# Altium schematic symbol library KipoAlt.SchLib: 644 symbols (part 1 of 4)
Pins are listed as number, name and electrical type; pins without a type are passive.

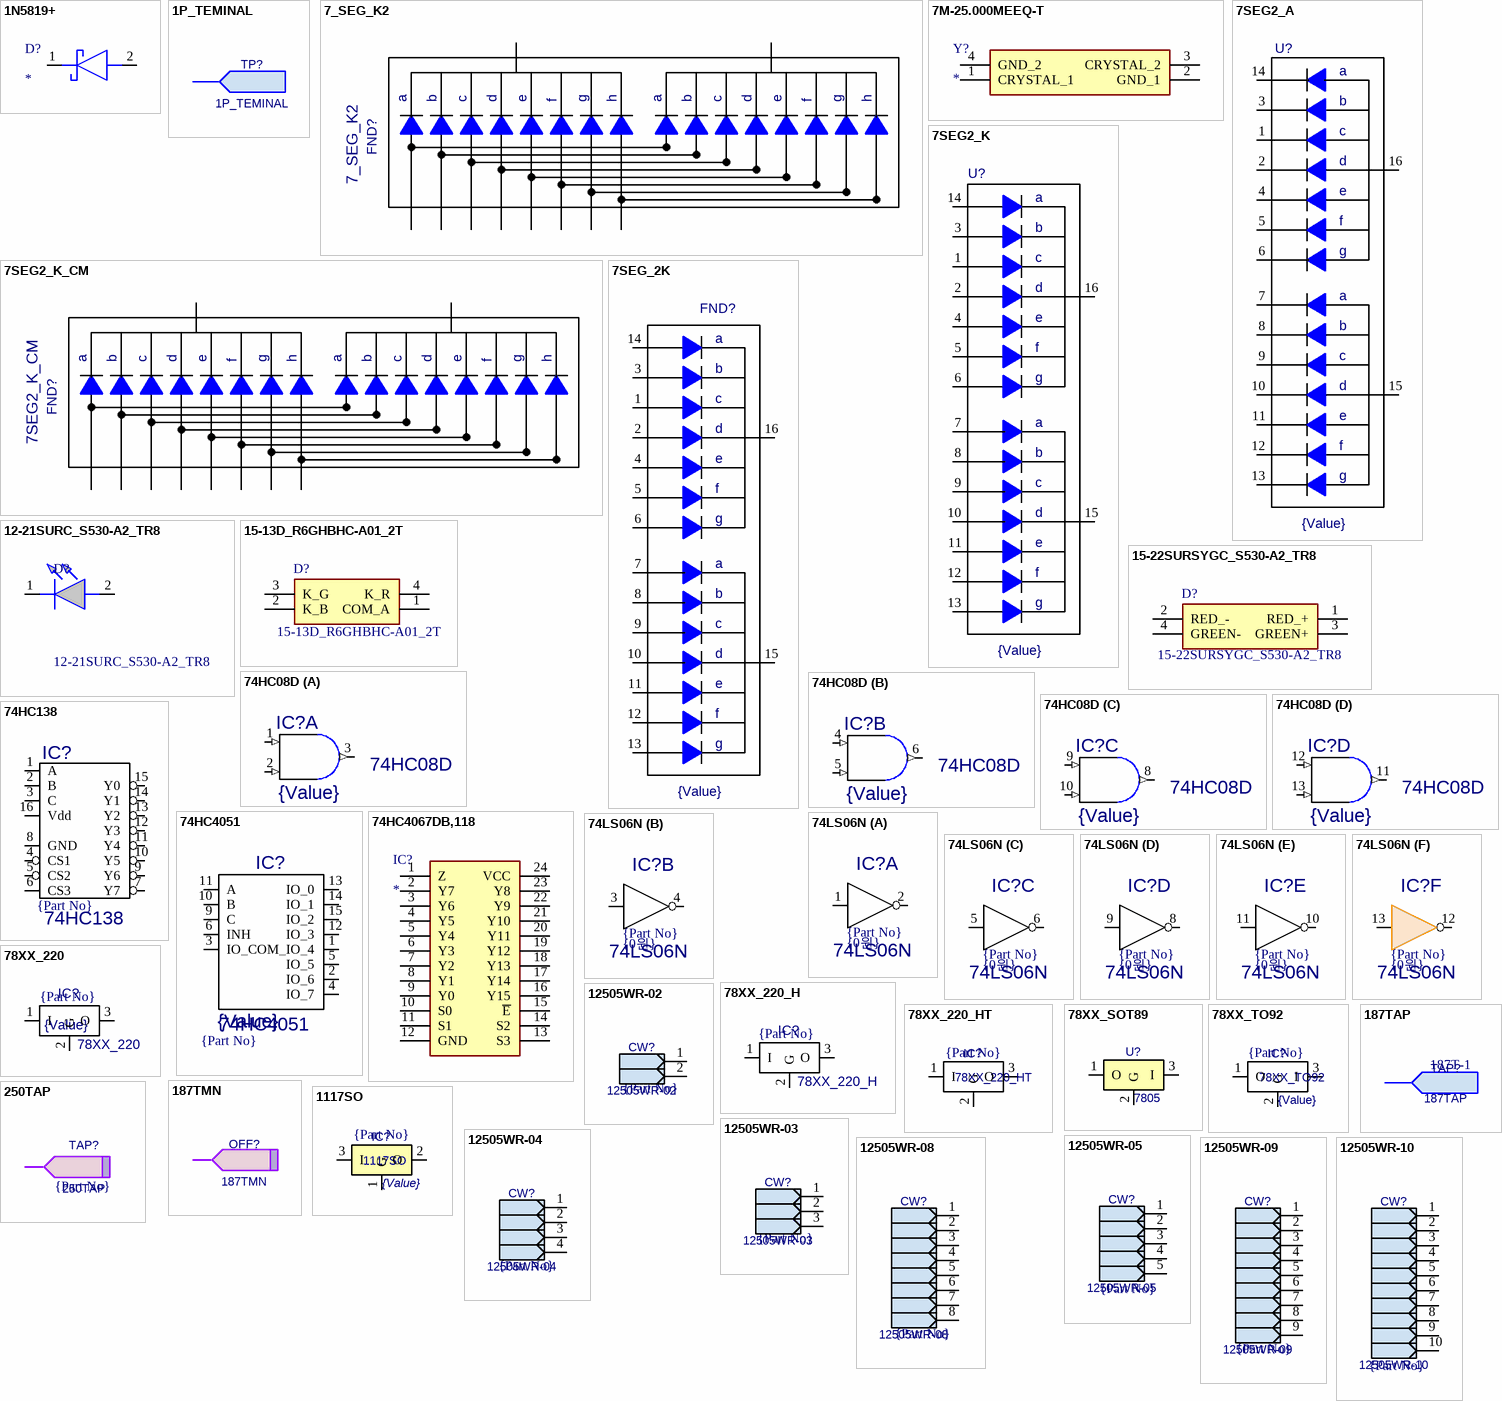
[diagram p0: symbols 1N5819+ to 12505WR-10]

## 1N5819+
designator D?
Schottky Diode; Manufacturer_Name: Multicomp Pro; Manufacturer_Part_Number: 1N5819+
footprint DIOAD1410W86L470D235
pins: 1 K, 2 A

## 1P_TEMINAL
designator TP?
Value: *
footprint TMN_25X40
pins: 1

## 7_SEG_K2
designator FND?
Value: {Value}
footprint 7SEG2_K_CM
pins: 1, 2, 3, 4, 5, 6, 7, 8, 9, 10
text: a; b; c; d; e; f; g; h

## 7M-25.000MEEQ-T
designator Y?
Crystal or Oscillator; Manufacturer_Name: TXC CORPORATION; Manufacturer_Part_Number: 7M-25.000MEEQ-T; Datasheet Link: https://www.txccrystal.com/images/pdf/7m-accuracy.pdf; Height: 0.8mm; Mouser Part Number: 717-7M-25.000MEEQ-T; Mouser Price/Stock: https://www.mouser.co.uk/ProductDetail/TXC-Corporation/7M-25000MEEQ-T?qs=65dIHZNch5sP8qfwL3nyOQ%3D%3D; Arrow Part Number: 7M-25.000MEEQ-T; Arrow Price/Stock: https://www.arrow.com/en/products/7m-25.000meeq-t/txc-corporation?region=nac
footprint 7M25000MEEQT
pins: 1 CRYSTAL_1, 2 GND_1, 3 CRYSTAL_2, 4 GND_2

## 7SEG2_A
designator U?  value {Value}  (hidden comment: *)
pins: 1, 2, 3, 4, 5, 6, 7, 8, 9, 10, 11, 12, 13, 14, 15, 16
text: a; b; c; d; e; f; g

## 7SEG2_K
designator U?  value {Value}  (hidden comment: *)
footprint 7SEG2_K
pins: 1, 2, 3, 4, 5, 6, 7, 8, 9, 10, 11, 12, 13, 14, 15, 16
text: a; b; c; d; e; f; g

## 7SEG2_K_CM
designator FND?
Value: *
footprint 7SEG2_K_CM
pins: 1, 2, 3, 4, 5, 6, 7, 8, 9, 10
text: a; b; c; d; e; f; g; h

## 7SEG_2K
designator FND?  value {Value}  (hidden comment: *)
footprint 7SEG_2K
pins: 1, 2, 3, 4, 5, 6, 7, 8, 9, 10, 11, 12, 13, 14, 15, 16
text: a; b; c; d; e; f; g

## 12-21SURC_S530-A2_TR8
designator D?
ED Uni-Color Hyper Red 632nm Automotive 2-Pin Chip LED T/R; Manufacturer_Name: Everlight; Manufacturer_Part_Number: 12-21SURC/S530-A2/TR8; Geometry.Height: 1.1mm; Mouser Part Number: *; Mouser Price/Stock: *; Arrow Part Number: 12-21SURC/S530-A2/TR8; Arrow Price/Stock: https://www.arrow.com/en/products/12-21surcs530-a2tr8/everlight-electronics?region=europe; Datasheet Link: https://www.mouser.com/datasheet/2/143/1221surcs530xxtr8-1165872.pdf
footprint 1221SURCS530A2TR8
pins: 1 K, 2 A

## 15-13D_R6GHBHC-A01_2T
designator D?
LED Tri-Color Blue/Green/Red 468nm/518nm/632nm 4-Pin Chip LED T/R; Manufacturer_Name: Everlight; Manufacturer_Part_Number: 15-13D/R6GHBHC-A01/2T; Geometry.Height: 1.1mm; Mouser Part Number: 638-1513DR6GHBHCA01; Mouser Price/Stock: *; Arrow Part Number: 15-13D/R6GHBHC-A01/2T; Arrow Price/Stock: https://www.arrow.com/en/products/15-13dr6ghbhc-a012t/everlight-electronics; Datasheet Link: https://everlighteurope.com/index.php?controller=attachment&id_attachment=5678
footprint 1513DR6GHBHCA012T
pins: 1 COM_A, 2 K_B, 3 K_G, 4 K_R

## 15-22SURSYGC_S530-A2_TR8
designator D?
LED Bi-Color Red/Yellow Green 632nm/575nm 4-Pin Chip LED T/R; Manufacturer_Name: Everlight; Manufacturer_Part_Number: 15-22SURSYGC/S530-A2/TR8; Geometry.Height: 1.1mm; Mouser Part Number: 638-1522SURSYGCA2TR8; Mouser Price/Stock: https://www.mouser.co.uk/ProductDetail/Everlight/15-22SURSYGC-S530-A2-TR8?qs=8cKuZ6Ok2lZ0%252BNOb%252B%2F6r4A%3D%3D; Arrow Part Number: *; Arrow Price/Stock: *; Datasheet Link: https://lcsc.com/product-detail/Light-Emitting-Diodes-LED_Everlight-Elec-15-22SURSYGC-S530-A2-TR8_C131251.html
footprint 1522SURSYGCS530A2TR8
pins: 1 RED_+, 2 RED_-, 3 GREEN+, 4 GREEN-

## 74HC08D
designator IC?  value {Value}
Quadruple 2-Input Positive-AND Gate; Part No: {Part No}; OriginalName: SN74AC08D; ComponentField1: Power pins are hidden; ComponentField2: Published 8-Jun-2000
footprint SO14
pins on every part: 7 GND (power) hidden, 14 VCC (power) hidden
part A pins: 1 A (in), 2 B (in), 3 Y (out)
part B pins: 4 A (in), 5 B (in), 6 Y (out)
part C pins: 8 Y (out), 9 A (in), 10 B (in)
part D pins: 11 Y (out), 12 A (in), 13 B (in)

## 74HC138
designator IC?  Part No: {Part No}
Value: *
footprint DIP16
pins: 1 A, 2 B, 3 C, 4 CS1, 5 CS2, 6 CS3, 7 Y7, 8 GND, 9 Y6, 10 Y5, 11 Y4, 12 Y3, 13 Y2, 14 Y1, 15 Y0, 16 Vdd

## 74HC4051
designator IC?  value {Value}  Part No: {Part No}
Analog Multiplexer/Demultiplexer; OriginalName: HCC4051BF; ComponentField6: Power pins are hidden.; ComponentField7: Published 8-Jun-2000
footprint DIP16
pins: 1 IO_4, 2 IO_6, 3 IO_COM_, 4 IO_7, 5 IO_5, 6 INH, 7 gnd (power) hidden, 8 gnd (power) hidden, 9 C, 10 B, 11 A, 12 IO_3, 13 IO_0, 14 IO_1, 15 IO_2, 16 Vdd (power) hidden

## 74HC4067DB,118
designator IC?
Integrated Circuit; Manufacturer_Name: Nexperia; Manufacturer_Part_Number: 74HC4067DB,118; Datasheet Link: https://assets.nexperia.com/documents/data-sheet/74HC_HCT4067.pdf; Height: 2mm; Mouser Part Number: 771-HC4067DB118; Mouser Price/Stock: https://www.mouser.co.uk/ProductDetail/Nexperia/74HC4067DB118?qs=P62ublwmbi8lmEXDWqCs3g%3D%3D; Arrow Part Number: 74HC4067DB,118; Arrow Price/Stock: https://www.arrow.com/en/products/74hc4067db118/nexperia?region=nac
footprint SOP65P775X200-24N
pins: 1 Z, 2 Y7, 3 Y6, 4 Y5, 5 Y4, 6 Y3, 7 Y2, 8 Y1, 9 Y0, 10 S0, 11 S1, 12 GND, 13 S3, 14 S2, 15 ~{E}, 16 Y15, 17 Y14, 18 Y13, 19 Y12, 20 Y11, 21 Y10, 22 Y9, 23 Y8, 24 VCC

## 74LS06N
designator IC?  Price: {0원}  Part No: {Part No}
Hex Inverter Buffer / Driver with Open-Collector High-Voltage Outputs; OriginalName: SN74LS06N; ComponentField1: Power pins are hidden; ComponentField2: Published 8-Jun-2000; Value: {Value}
footprint DIP-14/D19.7
pins on every part: 7 GND (power) hidden, 14 VCC (power) hidden
part A pins: 1 A, 2 Y
part B pins: 3 A, 4 Y
part C pins: 5 A, 6 Y
part D pins: 8 Y, 9 A
part E pins: 10 Y, 11 A
part F pins: 12 Y, 13 A

## 78XX_220
designator IC?  value {Value}  Part No: {Part No}
Price: {Price}
footprint TO-220AB
pins: 1 I, 2 G, 3 O

## 78XX_220_H
designator IC?  Part No: {Part No}
Value: {Value}; {Price}: Price
footprint TO-220H
pins: 1 I, 2 G, 3 O

## 78XX_220_HT
designator IC?  Part No: {Part No}
Value: {Value}; Price: {Price}
footprint TO-220-HT
pins: 1 I, 2 G, 3 O

## 78XX_SOT89
designator U?  value 7805  (hidden comment: 78XX_SOT89)
Part No.: LM78L05 KX; Price: 63
footprint SOT-89
pins: 1 O, 2 G, 3 I, 4 hidden

## 78XX_TO92
designator IC?  value {Value}  Part No.: {Part No}
Price: {Price}
footprint TO92
pins: 1 O, 2 G, 3 I

## 187TAP
designator TAP?  Part No.: 187T-1
Value: *; Price: 20
footprint 187TAP
pins: 1 hidden, 1

## 187TMN
designator OFF?
Value: *; Price: {Price}
pins: 1

## 250TAP
designator TAP?  Part No.: {Part No}
Value: *; Price: {Price}
footprint 250TAP
pins: 1, 2 hidden

## 1117SO
designator IC?  value {Value}  Part No.: {Part No}
Price: {Price}
footprint SOT-223
pins: 1 G, 2 O, 3 I, 4 hidden

## 12505WR-02
designator CW?  Part No.: {Part No}
Price: {Price}
footprint 12505WR-02
pins: 1, 2

## 12505WR-03
designator CW?  Part No.: {Part No}
Price: {Price}
footprint 12505WR-03
pins: 1, 2, 3

## 12505WR-04
designator CW?  Part No.: {Part No}
Price: {Price}
footprint 12505WR-04
pins: 1, 2, 3, 4

## 12505WR-05
designator CW?  Part No.: {Part No}
Price: {Price}
footprint 12505WR-05
pins: 1, 2, 3, 4, 5

## 12505WR-08
designator CW?  Part No.: {Part No}
Price: {Price}
footprint 12505WR-08
pins: 1, 2, 3, 4, 5, 6, 7, 8

## 12505WR-09
designator CW?  Part No.: {Part No}
Price: {Price}
footprint 12505WR-09
pins: 1, 2, 3, 4, 5, 6, 7, 8, 9

## 12505WR-10
designator CW?  Part No.: {Part No}
Price: {Price}
footprint 12505WR-10
pins: 1, 2, 3, 4, 5, 6, 7, 8, 9, 10

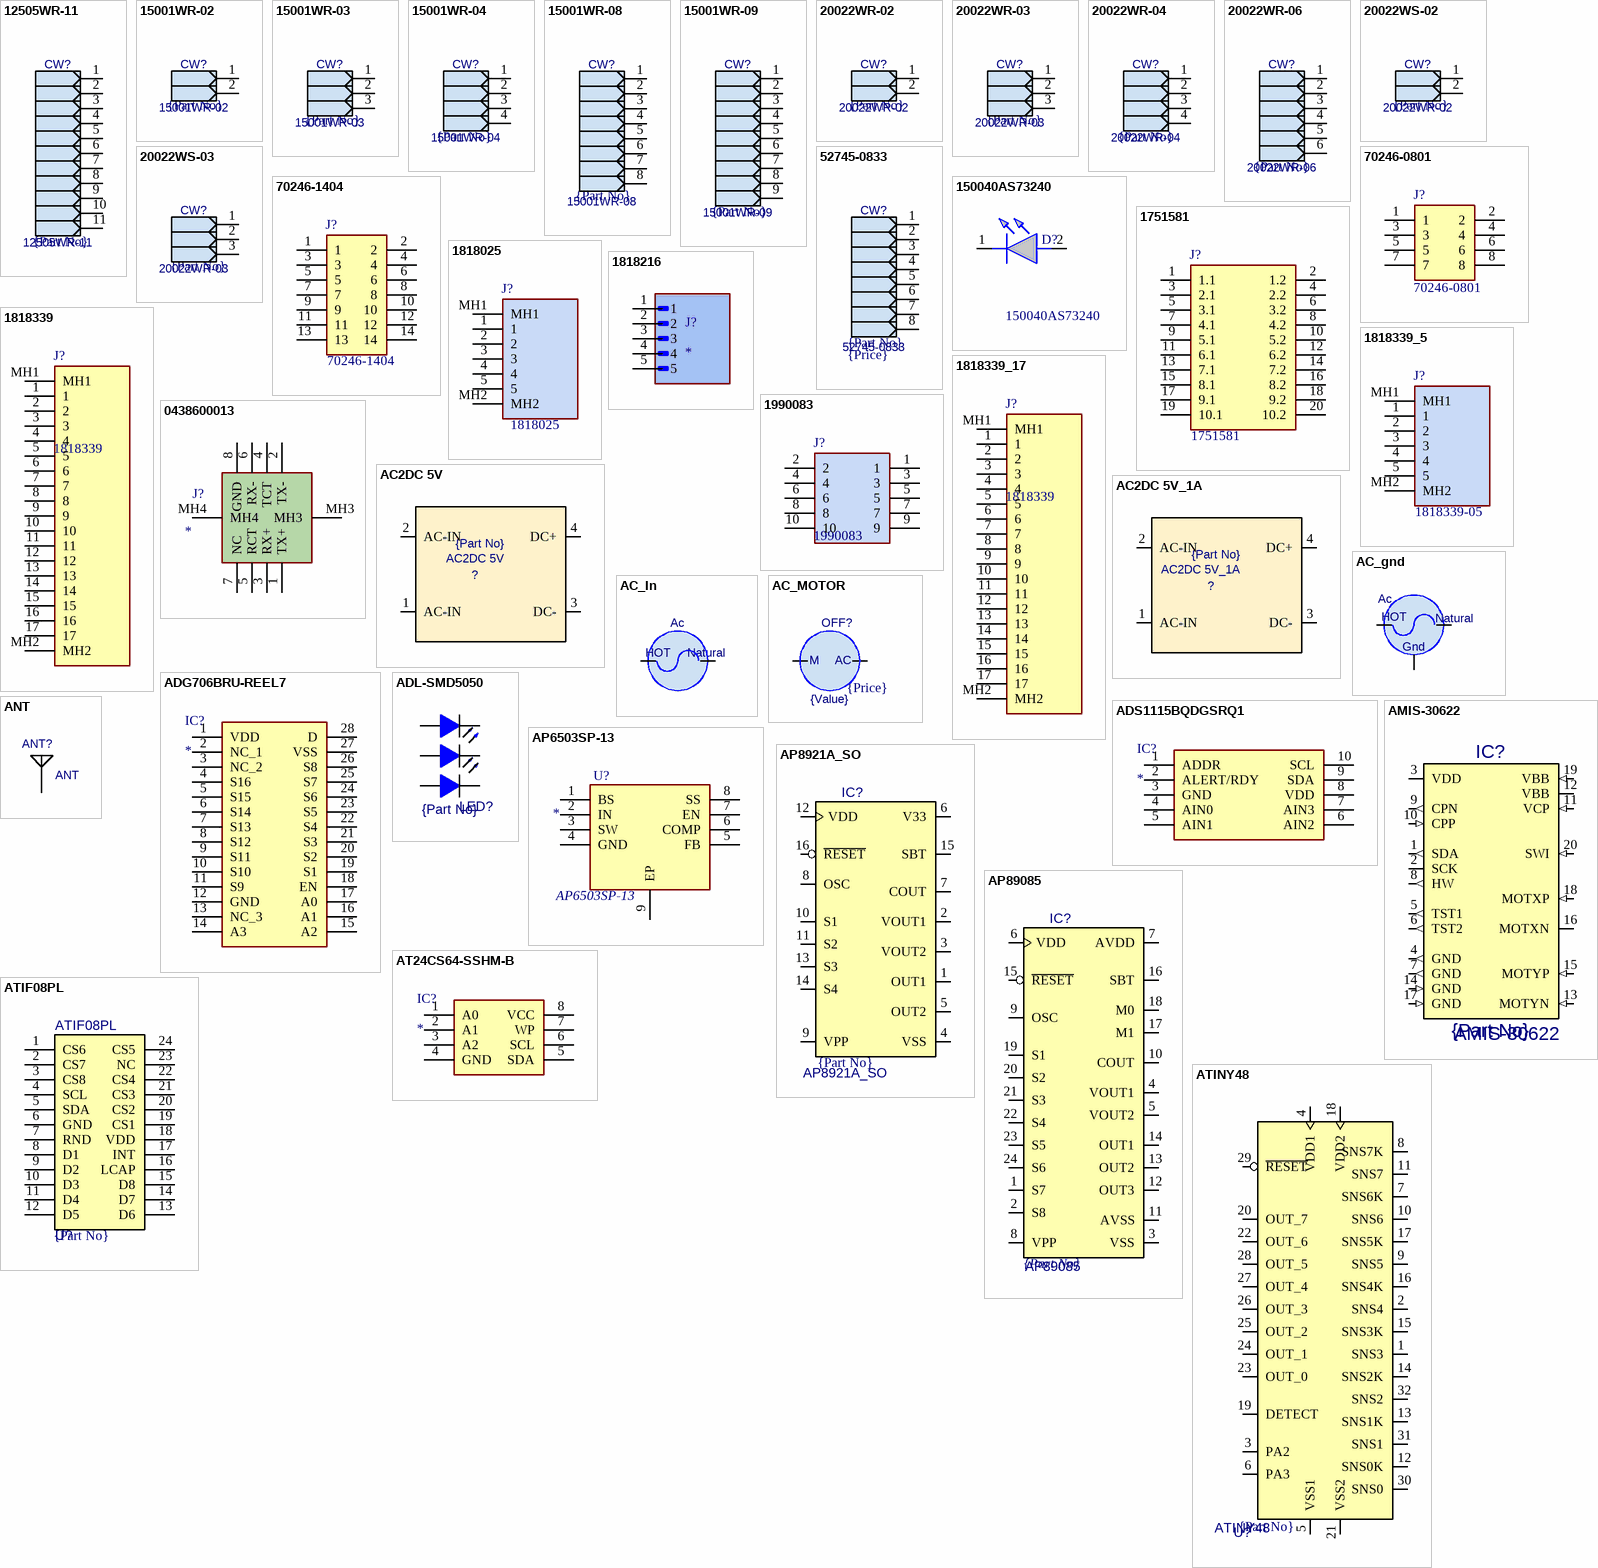
[diagram p1: symbols 12505WR-11 to ATINY48]

## 12505WR-11
designator CW?  Part No.: {Part No}
Price: {Price}
footprint 12505WR-11
pins: 1, 2, 3, 4, 5, 6, 7, 8, 9, 10, 11

## 15001WR-02
designator CW?  Part No.: {Part No}
Price: {Price}
footprint 15001WR-02
pins: 1, 2

## 15001WR-03
designator CW?  Part No.: {Part No}
Price: {Price}
footprint 15001WR-03
pins: 1, 2, 3

## 15001WR-04
designator CW?  Part No.: {Part No}
Price: {Price}
footprint 15001WR-04
pins: 1, 2, 3, 4

## 15001WR-08
designator CW?  Part No.: {Part No}
Price: {Price}
footprint 15001WR-08
pins: 1, 2, 3, 4, 5, 6, 7, 8

## 15001WR-09
designator CW?  Part No.: {Part No}
Price: {Price}
footprint 15001WR-09
pins: 1, 2, 3, 4, 5, 6, 7, 8, 9

## 20022WR-02
designator CW?  Part No.: {Part No}
Price: {Price}
footprint 20022WR-02
pins: 1, 2, 3 hidden, 4 hidden

## 20022WR-03
designator CW?  Part No.: {Part No}
Price: {Price}
footprint 20022WR-03
pins: 1, 2, 3, 4 hidden, 5 hidden

## 20022WR-04
designator CW?  Part No.: {Part No}
Price: {Price}
footprint 20022WR-04
pins: 1, 2, 3, 4, 5 hidden, 6 hidden

## 20022WR-06
designator CW?  Part No.: {Part No}
Price: {Price}
footprint 20022WR-06
pins: 1, 2, 3, 4, 5, 6

## 20022WS-02
designator CW?, comment 20022WR-02  Part No.: {Part No}
Price: {Price}
footprint 20022WS-02
pins: 1, 2, 3 hidden, 4 hidden

## 20022WS-03
designator CW?, comment 20022WR-03  Part No.: {Part No}
Price: {Price}
footprint 20022WS-03
pins: 1, 2, 3, 4 hidden, 5 hidden

## 52745-0833
designator CW?  Price: {Price}  Part No.: {Part No}
footprint 52745-0833
pins: 1, 2, 3, 4, 5, 6, 7, 8

## 70246-0801
designator J?
Headers & Wire Housings VERT HDR SHRD 8P LEAD FREE; Manufacturer_Name: Molex; Geometry.Height: 9.27mm; Manufacturer_Part_Number: 70246-0801; Mouser Part Number: 538-70246-0801; Mouser Price/Stock: https://www.mouser.co.uk/ProductDetail/Molex/70246-0801?qs=KOdaDPWVOUaw5PENvhTZTA%3D%3D; Arrow Part Number: *; Arrow Price/Stock: *; Datasheet Link: https://www.molex.com/pdm_docs/sd/702460801_sd.pdf
footprint SHDR8W99P254_2X4_1778X889X927P
pins: 1, 2, 3, 4, 5, 6, 7, 8

## 70246-1404
designator J?
Headers & Wire Housings VERT HDR SHRD 14P LEAD FREE; Manufacturer_Name: Molex; Geometry.Height: 9.27mm; Manufacturer_Part_Number: 70246-1404; Mouser Part Number: 538-70246-1404; Mouser Price/Stock: https://www.mouser.co.uk/ProductDetail/Molex/70246-0801?qs=KOdaDPWVOUaw5PENvhTZTA%3D%3D; Arrow Part Number: *; Arrow Price/Stock: *; Datasheet Link: https://www.molex.com/pdm_docs/sd/702460801_sd.pdf
footprint 70246-1402
pins: 1, 2, 3, 4, 5, 6, 7, 8, 9, 10, 11, 12, 13, 14

## 150040AS73240
designator D?
WL-SMCC SMT Mono-color Chip LED Compact; Manufacturer_Name: Wurth Elektronik; Geometry.Height: 0.5mm; Mouser Part Number: *; Mouser Price/Stock: *; Arrow Part Number: *; Arrow Price/Stock: *; Datasheet Link: https://www.we-online.com/catalog/datasheet/150040AS73240.pdf; Part No.: 150040AS73240; Price: {Price}
footprint 150040AS73240
pins: 1 K, 2 A

## 1751581
designator J?
FFKDSA1/V1-5,08-10 - Printed circuit board terminal, nominal current: 15 A, rated voltage (III/2): 400 V, nominal cross section: 1.5 mm<sup>2</sup>, number of potentials: 10, number of rows: 1, number of positions per row: 10, product range: FFKDS(A)/V1, pitch: 5.08 mm, connection method: Push-in spring connection, mounting: Wave soldering, conductor/PCB connection direction: 90 , color: green, Pin layout: Linear pinning, Solder pin [P]: 3.4 mm, number of solder pins per potential: 2, type of packaging: pa; Manufacturer_Name: Phoenix Contact; Geometry.Height: 13.6mm; Manufacturer_Part_Number: 1751581; Mouser Part Number: 651-1751581; Mouser Price/Stock: https://www.mouser.co.uk/ProductDetail/Phoenix-Contact/1751581?qs=5SfROSHwb7CCaVxuhSvzeQ%3D%3D; Arrow Part Number: *; Arrow Price/Stock: *; Datasheet Link: https://www.phoenixcontact.com/en-us/products/printed-circuit-board-terminal-ffkdsa1v1-508-10-1751581?type=pdf
footprint 1751581
pins: 1 1.1, 2 1.2, 3 2.1, 4 2.2, 5 3.1, 6 3.2, 7 4.1, 8 4.2, 9 5.1, 10 5.2, 11 6.1, 12 6.2, 13 7.1, 14 7.2, 15 8.1, 16 8.2, 17 9.1, 18 9.2, 19 10.1, 20 10.2

## 1818025
designator J?
MCV 1,5/ 5-GF-3,5-LR - PCB headers, nominal cross section: 1.5 mm<sup>2</sup>, color: green, nominal current: 8 A, rated voltage (III/2): 160 V, contact surface: Sn, contact connection type: Pin, number of potentials: 5, number of rows: 1, number of positions: 5, number of connections: 5, product range: MCV 1,5/..-GF-LR, pitch: 3.5 mm, mounting: Wave soldering, pin layout: Linear pinning, solder pin [P]: 3.4 mm, number of solder pins per potential: 1, plug-in system: COMBICON MC 1,5, Pin connector pattern a; Manufacturer_Name: Phoenix Contact; Geometry.Height: 9.35mm; Manufacturer_Part_Number: 1818025; Mouser Part Number: 651-1818025; Mouser Price/Stock: https://www.mouser.co.uk/ProductDetail/Phoenix-Contact/1818025?qs=2WS7V4AoKFoZk6SygIuG4Q%3D%3D; Arrow Part Number: 1818025; Arrow Price/Stock: https://www.arrow.com/en/products/1818025/phoenix-contact?region=nac; Datasheet Link: https://www.phoenixcontact.com/en-us/products/pcb-header-mcv-15-5-gf-35-lr-1818025?type=pdf
footprint 1818025
pins: 1, 2, 3, 4, 5, MH1, MH2

## 1818216
designator J?
MCV 1,5/ 5-GF-3,81-LR - PCB headers, nominal cross section: 1.5 mm<sup>2</sup>, color: green, nominal current: 8 A, rated voltage (III/2): 160 V, contact surface: Sn, contact connection type: Pin, number of potentials: 17, number of rows: 1, number of positions: 17, number of connections: 17, product range: MCV 1,5/..-GF-LR, pitch: 3.81 mm, mounting: Wave soldering, pin layout: Linear pinning, solder pin [P]: 3.4 mm, number of solder pins per potential: 1, plug-in system: COMBICON MC 1,5, Pin connector patt; MF: {'manufacturer': u'Phoenix Contact'}; MP: 1818216; Package: None; Price: None; Value: *; Availability: Unavailable
footprint PHOENIX_1818216
pins: 1, 2, 3, 4, 5

## 1818339
designator J?
MCV 1,5/17-GF-3,81-LR - PCB headers, nominal cross section: 1.5 mm<sup>2</sup>, color: green, nominal current: 8 A, rated voltage (III/2): 160 V, contact surface: Sn, contact connection type: Pin, number of potentials: 17, number of rows: 1, number of positions: 17, number of connections: 17, product range: MCV 1,5/..-GF-LR, pitch: 3.81 mm, mounting: Wave soldering, pin layout: Linear pinning, solder pin [P]: 3.4 mm, number of solder pins per potential: 1, plug-in system: COMBICON MC 1,5, Pin connector patt; Manufacturer_Name: Phoenix Contact; Geometry.Height: 9.35mm; Manufacturer_Part_Number: 1818339; Mouser Part Number: *; Mouser Price/Stock: *; Arrow Part Number: *; Arrow Price/Stock: *; Datasheet Link: https://www.phoenixcontact.com/en-us/products/pcb-header-mcv-1517-gf-381-lr-1818339?type=pdf
footprint 1818339
pins: 1, 2, 3, 4, 5, 6, 7, 8, 9, 10, 11, 12, 13, 14, 15, 16, 17, MH1, MH2

## 1818339_5
designator J?, comment 1818339-05
MCV 1,5/17-GF-3,81-LR - PCB headers, nominal cross section: 1.5 mm<sup>2</sup>, color: green, nominal current: 8 A, rated voltage (III/2): 160 V, contact surface: Sn, contact connection type: Pin, number of potentials: 17, number of rows: 1, number of positions: 17, number of connections: 17, product range: MCV 1,5/..-GF-LR, pitch: 3.81 mm, mounting: Wave soldering, pin layout: Linear pinning, solder pin [P]: 3.4 mm, number of solder pins per potential: 1, plug-in system: COMBICON MC 1,5, Pin connector patt; Manufacturer_Name: Phoenix Contact; Geometry.Height: 9.35mm; Manufacturer_Part_Number: 1818339; Mouser Part Number: *; Mouser Price/Stock: *; Arrow Part Number: *; Arrow Price/Stock: *; Datasheet Link: https://www.phoenixcontact.com/en-us/products/pcb-header-mcv-1517-gf-381-lr-1818339?type=pdf
footprint mcv 1,5/5gh-3,5_5pin
footprint mcv 1,5/5gh-3,8_5pin
pins: 1, 2, 3, 4, 5, MH1, MH2

## 1818339_17
designator J?, comment 1818339
MCV 1,5/17-GF-3,81-LR - PCB headers, nominal cross section: 1.5 mm<sup>2</sup>, color: green, nominal current: 8 A, rated voltage (III/2): 160 V, contact surface: Sn, contact connection type: Pin, number of potentials: 17, number of rows: 1, number of positions: 17, number of connections: 17, product range: MCV 1,5/..-GF-LR, pitch: 3.81 mm, mounting: Wave soldering, pin layout: Linear pinning, solder pin [P]: 3.4 mm, number of solder pins per potential: 1, plug-in system: COMBICON MC 1,5, Pin connector patt; Manufacturer_Name: Phoenix Contact; Geometry.Height: 9.35mm; Manufacturer_Part_Number: 1818339; Mouser Part Number: *; Mouser Price/Stock: *; Arrow Part Number: *; Arrow Price/Stock: *; Datasheet Link: https://www.phoenixcontact.com/en-us/products/pcb-header-mcv-1517-gf-381-lr-1818339?type=pdf
footprint 1818339
pins: 1, 2, 3, 4, 5, 6, 7, 8, 9, 10, 11, 12, 13, 14, 15, 16, 17, MH1, MH2

## 1990083
designator J?
PTSA 0,5/10-2,5-Z - Printed circuit board terminal, nominal current: 2 A, rated voltage (III/2): 250 V, nominal cross section: 0.5 mm<sup>2</sup>, number of potentials: 10, number of rows: 1, number of positions per row: 10, product range: PTSA 0,5, pitch: 2.5 mm, connection method: Push-in spring connection, mounting: Wave soldering, conductor/PCB connection direction: 45 , color: green, Pin layout: Zigzag pinning W, Solder pin [P]: 3.6 mm, number of solder pins per potential: 1, type of packaging: packed; Manufacturer_Name: Phoenix Contact; Geometry.Height: 13.1mm; Manufacturer_Part_Number: 1990083; Mouser Part Number: 651-1990083; Mouser Price/Stock: https://www.mouser.co.uk/ProductDetail/Phoenix-Contact/1990083?qs=eiqBpq341KUxP7V1ZFOCBQ%3D%3D; Arrow Part Number: 1990083; Arrow Price/Stock: https://www.arrow.com/en/products/1990083/phoenix-contact.html?utm_currency=USD&region=nac; Datasheet Link: https://www.phoenixcontact.com/en-us/products/printed-circuit-board-terminal-ptsa-0510-25-z-1990083?type=pdf
footprint 1990083
pins: 1, 2, 3, 4, 5, 6, 7, 8, 9, 10

## 0438600013
designator J?
Connector; Manufacturer_Name: Molex; Manufacturer_Part_Number: 0438600013; Datasheet Link: https://www.molex.com/en-us/products/part-detail-pdf/438600013?display=pdf; Height: 13.78mm; Mouser Part Number: N/A; Mouser Price/Stock: https://www.mouser.co.uk/ProductDetail/Molex/0438600013?qs=%252BdQmOuGyFcHPnpO4N3E7oA%3D%3D; Arrow Part Number: 0438600013; Arrow Price/Stock: https://www.arrow.com/en/products/0438600013/molex?utm_currency=USD&region=europe
footprint 0438600013
pins: 1 TX+, 2 TX-, 3 RX+, 4 TCT, 5 RCT, 6 RX-, 7 NC, 8 GND, MH3, MH4

## AC2DC 5V
designator ?  Part No.: {Part No}
Price: {Price}
footprint AC-DC 5V
pins: 1 AC-IN, 2 AC-IN, 3 DC-, 4 DC+

## AC2DC 5V_1A
designator ?  Part No.: {Part No}
{Price}: Price
footprint AC-DC 5V_1A
pins: 1 AC-IN, 2 AC-IN, 3 DC-, 4 DC+

## AC_gnd
designator Ac, comment ac2  (value not drawn)
Part No.: *
pins: 1, 2, 3 GND
text: HOT; Natural; Gnd

## AC_In
designator Ac, comment ac2  (value not drawn)
Part No.: *
pins: 1, 2
text: HOT; Natural

## AC_MOTOR
designator OFF?  Price: {Price}  Part No.: {Value}  (hidden comment: AC_MOTOR)
pins: 1, 2
text: M; AC

## ADG706BRU-REEL7
designator IC?
Integrated Circuit; Manufacturer_Name: Analog Devices; Manufacturer_Part_Number: ADG706BRU-REEL7; Datasheet Link: http://www.analog.com/media/en/technical-documentation/data-sheets/ADG706_707.pdf; Height: 1.2mm
footprint SOP65P640X120-28N
pins: 1 VDD, 2 NC_1, 3 NC_2, 4 S16, 5 S15, 6 S14, 7 S13, 8 S12, 9 S11, 10 S10, 11 S9, 12 GND, 13 NC_3, 14 A3, 15 A2, 16 A1, 17 A0, 18 EN, 19 S1, 20 S2, 21 S3, 22 S4, 23 S5, 24 S6, 25 S7, 26 S8, 27 VSS, 28 D

## ADL-SMD5050
designator LED?  Part No.: {Part No}  (hidden comment: ADL-SMD5050)
Price: {Price}
footprint PLCC-6
pins: 1, 2, 3, 4, 5, 6

## ADS1115BQDGSRQ1
designator IC?
Integrated Circuit; Manufacturer_Name: Texas Instruments; Manufacturer_Part_Number: ADS1115BQDGSRQ1; Datasheet Link: http://www.ti.com/lit/gpn/ads1115-q1; Height: 1.1mm; Mouser Part Number: 595-ADS1115BQDGSRQ1; Mouser Price/Stock: https://www.mouser.co.uk/ProductDetail/Texas-Instruments/ADS1115BQDGSRQ1?qs=34RfhUjJmKdvyLrkbnfjHA%3D%3D; Arrow Part Number: ADS1115BQDGSRQ1; Arrow Price/Stock: https://www.arrow.com/en/products/ads1115bqdgsrq1/texas-instruments.html?utm_currency=USD&region=nac
footprint SOP50P490X110-10N
pins: 1 ADDR, 2 ALERT/RDY, 3 GND, 4 AIN0, 5 AIN1, 6 AIN2, 7 AIN3, 8 VDD, 9 SDA, 10 SCL

## AMIS-30622
designator IC?  Part No.: {Part No}
Stepper Motor Controller; OriginalName: L297D; ComponentField7: Published 8-Jun-2000.; Price: {Price}
footprint SO-G20
pins: 1 SDA (out), 2 SCK (power), 3 VDD (oe), 4 GND (out), 5 TST1 (out), 6 TST2 (out), 7 GND (out), 8 HW (out), 9 CPN (out), 10 CPP (in), 11 VCP (in), 12 VBB (power), 13 MOTYN (in), 14 GND (in), 15 MOTYP (in), 16 MOTXN, 17 GND (in), 18 MOTXP (in), 19 VBB (in), 20 SWI (in)

## ANT
designator ANT?
Part No.: *
footprint ANT
pins: 1

## AP6503SP-13
designator U?  Part No.: AP6503SP-13
Undefined or Miscellaneous; Manufacturer_Name: Diodes Incorporated; Datasheet Link: https://componentsearchengine.com/Datasheets/1/AP6503SP-13.pdf; Height: 1.5mm; Mouser Part Number: 621-AP6503SP-13; Mouser Price/Stock: https://www.mouser.co.uk/ProductDetail/Diodes-Incorporated/AP6503SP-13?qs=T%2FOtf55vL7eP6JmPOWqPKg%3D%3D; Arrow Part Number: AP6503SP-13; Arrow Price/Stock: https://www.arrow.com/en/products/ap6503sp-13/diodes-incorporated?region=nac; Price: {Price}
footprint SOIC127P600X150-9N
pins: 1 BS, 2 IN, 3 SW, 4 GND, 5 FB, 6 COMP, 7 EN, 8 SS, 9 EP

## AP8921A_SO
designator IC?  Part No.: {Part No}
Price: {Price}
footprint SO16
pins: 1 OUT1, 2 VOUT1, 3 VOUT2, 4 VSS (power), 5 OUT2, 6 V33, 7 COUT, 8 OSC, 9 VPP, 10 S1, 11 S2, 12 VDD (power), 13 S3, 14 S4, 15 SBT, 16 ~{RESET}

## AP89085
designator IC?  Part No.: {Part No}
Price: {Price}
footprint SDIP24
pins: 1 S7, 2 S8, 3 VSS, 4 VOUT1 (power), 5 VOUT2, 6 VDD, 7 AVDD, 8 VPP, 9 OSC, 10 COUT, 11 AVSS, 12 OUT3 (power), 13 OUT2, 14 OUT1, 15 ~{RESET}, 16 SBT, 17 M1, 18 M0, 19 S1, 20 S2, 21 S3, 22 S4, 23 S5, 24 S6

## AT24CS64-SSHM-B
designator IC?
Integrated Circuit; Manufacturer_Name: Microchip; Manufacturer_Part_Number: AT24CS64-SSHM-B; Datasheet Link: http://ww1.microchip.com/downloads/en/devicedoc/atmel-8870-seeprom-at24cs64-datasheet.pdf; Height: 1.75mm; Mouser Part Number: 556-AT24CS64-SSHM-B; Mouser Price/Stock: https://www.mouser.co.uk/ProductDetail/Microchip-Technology-Atmel/AT24CS64-SSHM-B?qs=YAvGbpKWXiQC7uiSLLSgJQ%3D%3D; Arrow Part Number: AT24CS64-SSHM-B; Arrow Price/Stock: https://www.arrow.com/en/products/at24cs64-sshm-b/microchip-technology?region=europe
footprint SOIC127P600X175-8N
pins: 1 A0, 2 A1, 3 A2, 4 GND, 5 SDA, 6 SCL, 7 WP, 8 VCC

## ATIF08PL
designator U?  Part No.: {Part No}
Price: {Price}
footprint SSOP24
pins: 1 CS6, 2 CS7, 3 CS8, 4 SCL, 5 SDA, 6 GND, 7 RND, 8 D1, 9 D2, 10 D3, 11 D4, 12 D5, 13 D6, 14 D7, 15 D8, 16 LCAP, 17 INT, 18 VDD, 19 CS1, 20 CS2, 21 CS3, 22 CS4, 23 NC, 24 CS5

## ATINY48
designator U?  Part No.: {Part No}
Price: {Price}
footprint LQFP-32-7
pins: 1 SNS3, 2 SNS4, 3 PA2, 4 VDD1, 5 VSS1, 6 PA3, 7 SNS6K, 8 SNS7K, 9 SNS5, 10 SNS6, 11 SNS7, 12 SNS0K, 13 SNS1K, 14 SNS2K, 15 SNS3K, 16 SNS4K, 17 SNS5K, 18 VDD2, 19 DETECT, 20 OUT_7, 21 VSS2, 22 OUT_6, 23 OUT_0, 24 OUT_1, 25 OUT_2, 26 OUT_3, 27 OUT_4, 28 OUT_5, 29 ~{RESET}, 30 SNS0, 31 SNS1, 32 SNS2

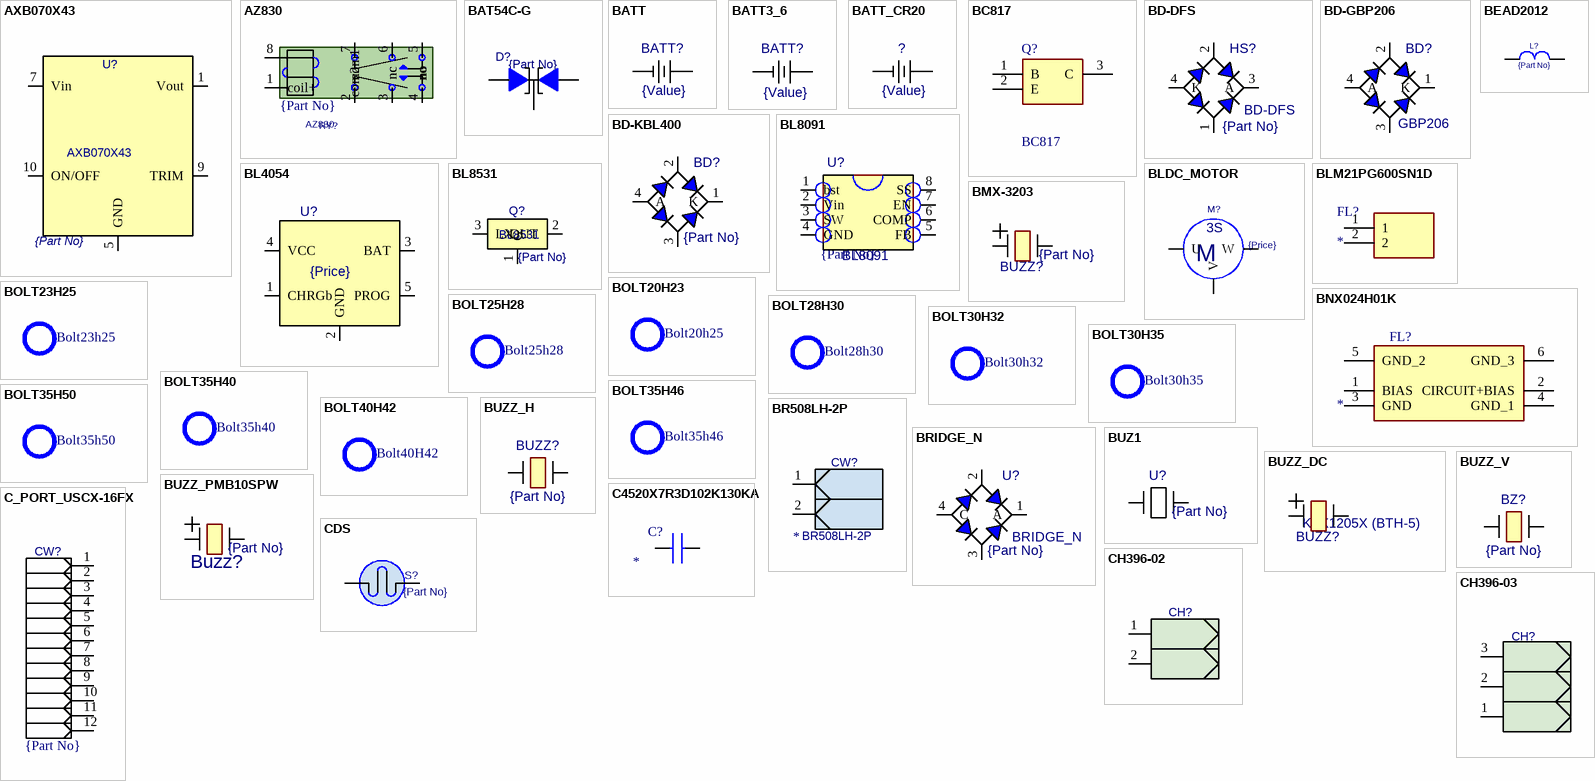
[diagram p2: symbols AXB070X43 to CH396-03]

## AXB070X43
designator U?  Part No.: {Part No}
Price: {Price}
footprint AXB070X43_AXB070X43(Primary)
pins: 1 Vout, 2 hidden, 3 hidden, 4 hidden, 5 GND, 6 hidden, 7 Vin, 8 hidden, 9 TRIM, 10 ON/OFF

## AZ830
designator RY?  Part No.: {Part No}
Price: {Price}
footprint AZ830
pins: 1 coil+, 2 com1, 3 nc, 4 no, 5 no, 6 nc, 7 com2, 8 coil-

## BAT54C-G
designator D?  Part No.: {Part No}  (hidden comment: BAT54C-G)
Price: {Price}
footprint SOT-23
pins: 1, 2, 3

## BATT
designator BATT?  Part No.: {Value}  (hidden comment: BATT)
footprint BATT_CR
pins: 1, 2

## BATT3_6
designator BATT?  Part No.: {Value}  (hidden comment: BATT3_6)
Price: {Price}
footprint BATT3_6
pins: 1 +, 2 -, 3 - hidden

## BATT_CR20
designator ?  Part No.: {Value}  (hidden comment: BATT_CR20)
footprint BATT_CASE
footprint BATT_CASE_2032
pins: 1, 2, 3 hidden, 4 hidden

## BC817
designator Q?
NXP Semiconductors; Geometry.Height: 1.1mm; Manufacturer_Name: NXP; Manufacturer_Part_Number: BC817; Mouser Part Number: N/A; Mouser Price/Stock: https://www.mouser.co.uk/ProductDetail/NXP-Semiconductors/BC817?qs=55YtniHzbhB1EDHcioPgAw%3D%3D; Arrow Part Number: *; Arrow Price/Stock: *; Datasheet Link: https://assets.nexperia.com/documents/data-sheet/BC817_SER.pdf
footprint SOT95P230X110-3N
pins: 1 B, 2 E, 3 C

## BD-DFS
designator HS?  {Price: {Part No}
Full Wave Diode Bridge; ComponentField6: Published 8-Jun-2000; OriginalName: BRIDGE; Price: {Price}
simulation model BRIDGE
footprint DF-S
pins: 1 C, 2 C, 3 A, 4 K

## BD-GBP206
designator BD?, comment GBP206
Full Wave Diode Bridge; ComponentField6: Published 8-Jun-2000; OriginalName: BRIDGE; Price: {Price}; Part No.: GBP206
simulation model BRIDGE
footprint BD_gbp206
pins: 1 K, 2 C, 3 C, 4 A

## BD-KBL400
designator BD?, comment Part No.: {Part No}  (hidden comment: KBL400)
Full Wave Diode Bridge; ComponentField6: Published 8-Jun-2000; OriginalName: BRIDGE; Price: {Price}
simulation model BRIDGE
footprint KBL400
pins: 1 K, 2 C, 3 C, 4 A

## BEAD2012
designator L?, comment Part No.: {Part No}  (hidden comment: L)
footprint BEADC2012X110N
footprint BLM21AG102BH1J
pins: 1, 2

## BL4054
designator U?  {Pric: {Price}  (hidden comment: BL4054)
Price: {Price}; Parameter 1: *
footprint TSOT-23-5
pins: 1 CHRGb, 2 GND, 3 BAT, 4 VCC, 5 PROG

## BL8091
designator U?  Part No.: {Part No}
Price: {Price}
footprint SO8
pins: 1 bst, 2 Vin, 3 SW, 4 GND, 5 FB, 6 COMP, 7 EN, 8 SS

## BL8531
designator Q?  Part No.: {Part No}
Price: {Price}; Parameter 2: *
footprint SOT-89
pins: 1 G, 2 OUT, 3 LX, 4 hidden

## BLDC_MOTOR
designator M?  Part No.: {Price}  (hidden comment: BLDC_MOTOR)
Price: {Price}
pins: 1 U, 2 V, 3 W
text: 3S; M

## BLM21PG600SN1D
designator FL?
Filter; Manufacturer_Name: Murata Electronics; Manufacturer_Part_Number: BLM21PG600SN1D; Datasheet Link: https://www.murata.com/en-us/products/productdetail?partno=BLM21PG600SN1%23; Height: 1.05mm; Mouser Part Number: 81-BLM21P600S; Mouser Price/Stock: https://www.mouser.co.uk/ProductDetail/Murata-Electronics/BLM21PG600SN1D?qs=LbqjZSvnDswFXSg06XQ50A%3D%3D; Arrow Part Number: BLM21PG600SN1D; Arrow Price/Stock: https://www.arrow.com/en/products/blm21pg600sn1d/murata-manufacturing.html?utm_currency=USD&region=europe
footprint BLM21AG102BH1J
pins: 1, 2

## BMX-3203
designator BUZZ?  Part No.: {Part No}  (hidden comment: BMX-3203)
Price: {Price}
footprint BMX-3203
pins: 1, 2

## BNX024H01K
designator FL?
Filter; Manufacturer_Name: Murata Electronics; Manufacturer_Part_Number: BNX024H01K; Datasheet Link: https://www.murata.com/en-us/products/productdetail?partno=BNX024H01%23; Height: 3.7mm
footprint BNX024H01K
pins: 1 BIAS, 2 CIRCUIT+BIAS, 3 GND, 4 GND_1, 5 GND_2, 6 GND_3

## BOLT20H23
designator BOLT?, comment Bolt20h25
Bolt20h30; Part No.: {Part No}; Price: {Price}
footprint BOLT20H23
pins: 1 hidden

## BOLT23H25
designator BOLT?, comment Bolt23h25
Part No.: *; Price: {Price}
footprint BOLT23H25
pins: 1 hidden

## BOLT25H28
designator BOLT?, comment Bolt25h28
Part No.: *; Price: {Price}
footprint BOLT25H28
pins: 1 hidden

## BOLT28H30
designator BOLT?, comment Bolt28h30
Part No.: *; Price: {Price}
footprint BOLT28H30
pins: 1 hidden

## BOLT30H32
designator BOLT?, comment Bolt30h32
Part No.: *; Price: {Price}
footprint BOLT30H32
pins: 1 hidden

## BOLT30H35
designator BOLT?, comment Bolt30h35
Part No.: *; Price: {Price}
footprint BOLT30H35
pins: 1 hidden

## BOLT35H40
designator BOLT?, comment Bolt35h40
Part No.: *; Price: {Price}
footprint BOLT35H40
pins: 1 hidden

## BOLT35H46
designator BOLT?, comment Bolt35h46
Part No.: *; Price: {Price}
footprint BOLT35H46
pins: 1 hidden

## BOLT35H50
designator BOLT?, comment Bolt35h50
Part No.: *; Price: {Price}
footprint BOLT35H50
pins: 1 hidden

## BOLT40H42
designator BOLT?, comment Bolt40H42
Part No.: *; Price: {Price}
pins: 1 hidden

## BR508LH-2P
designator CW?
Price: {Price}; Part No.: *
footprint BR508LH-2P
pins: 1, 2

## BRIDGE_N
designator U?  Part No.: {Part No}
Full Wave Diode Bridge; ComponentField6: Published 8-Jun-2000; OriginalName: BRIDGE; Price: {Price}
simulation model BRIDGE
footprint BRIDGE_D
pins: 1 A, 2 C, 3 K, 4 C

## BUZ1
designator U?  Part No.: {Part No}  (hidden comment: BUZ1)
Price: {Price}
footprint BUZZ_V
pins: 1, 2

## BUZZ_DC
designator BUZZ?  Part No.: KTX1205X (BTH-5)  (hidden comment: BUZZ_DC)
Price: 278
footprint BUZZ_DC
pins: 1, 2

## BUZZ_H
designator BUZZ?  Part No.: {Part No}  (hidden comment: BUZZ_H)
Price: {Price}
footprint BUZZ_H
pins: 1, 2

## BUZZ_PMB10SPW
designator Buzz?  Part No.: {Part No}  (hidden comment: BUZZ_PMB10SPW)
Price: {Price}
footprint BUZZ_PMB10SPW03S
pins: 1, 2

## BUZZ_V
designator BZ?  Part No.: {Part No}  (hidden comment: BUZZ_V)
Price: {Price}
footprint BUZZ_H
pins: 1, 2

## C4520X7R3D102K130KA
designator C?
Capacitor; Manufacturer_Name: TDK; Manufacturer_Part_Number: C4520X7R3D102K130KA; Datasheet Link: https://product.tdk.com/system/files/dam/doc/product/capacitor/ceramic/mlcc/catalog/mlcc_commercial_highvoltage_en.pdf; Height: 1mm; Mouser Part Number: 810-C4520X7R3D102K; Mouser Price/Stock: https://www.mouser.co.uk/ProductDetail/TDK/C4520X7R3D102K130KA?qs=NRhsANhppD%2FmDDEB06mgKg%3D%3D; Arrow Part Number: C4520X7R3D102K130KA; Arrow Price/Stock: https://www.arrow.com/en/products/c4520x7r3d102k130ka/tdk?utm_currency=USD&region=nac
footprint C4520_Commercial
pins: 1, 2

## C_PORT_USCX-16FX
designator CW?  Part No.: {Part No}  (hidden comment: C_PORT_USCX-16FX)
Price: {Price}
footprint USB_USCX-16FX
pins: 1, 2, 3, 4, 5, 6, 7, 8, 9, 10, 11, 12

## CDS
designator S?  Part No.: {Part No}  (hidden comment: CDS)
Price: {Price}
footprint CDS
pins: 1, 2

## CH396-02
designator CH?, comment Connect Housing  (value not drawn)
Part No.: {Part No}; Price: {Price}
pins: 1, 2

## CH396-03
designator CH?, comment Connect Housing  (value not drawn)
Parameter 1: {Price}; Price: {Part No}
pins: 1, 2, 3

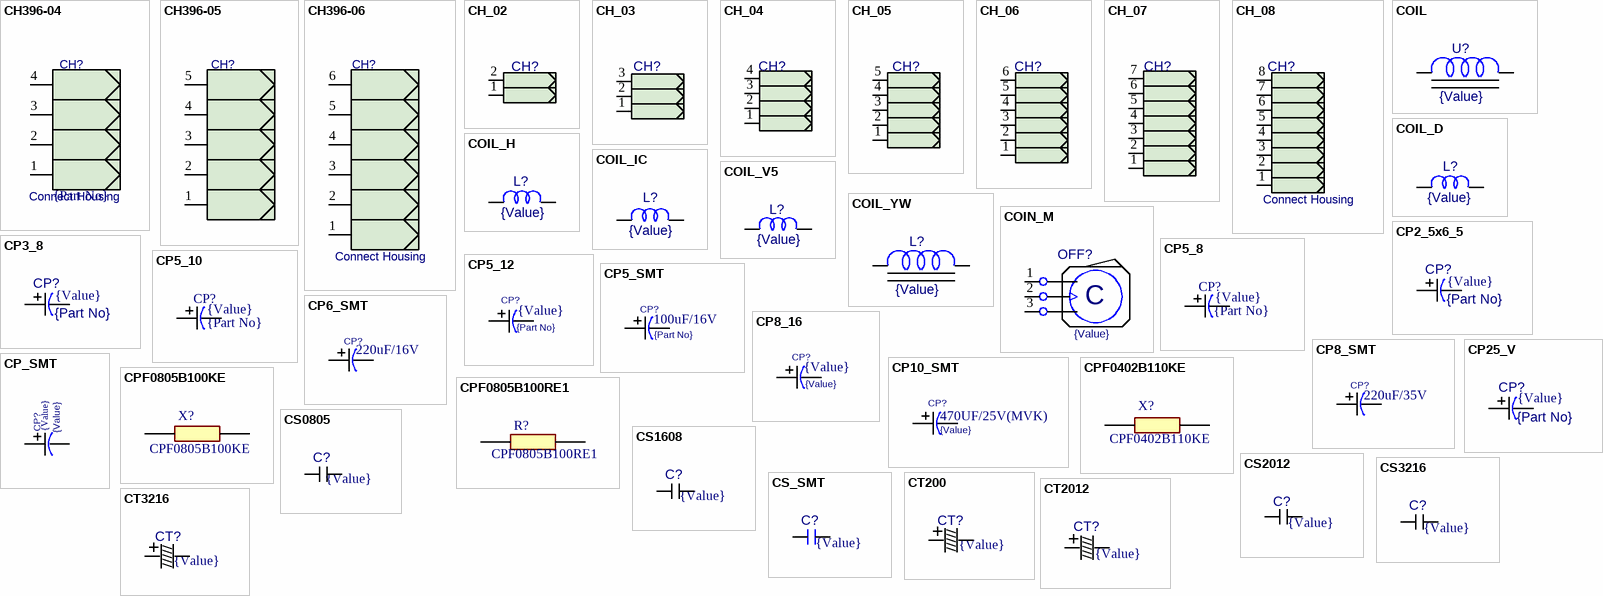
[diagram p3: symbols CH396-04 to CT3216]

## CH396-04
designator CH?, comment Connect Housing  Part No.: {Part No}
Price: {Price}
pins: 1, 2, 3, 4

## CH396-05
designator CH?, comment Connect Housing  (value not drawn)
Part No.: {Part No}; Price: {Price}
pins: 1, 2, 3, 4, 5

## CH396-06
designator CH?, comment Connect Housing
Part No.: {Part No}; Price: {Price}
pins: 1, 2, 3, 4, 5, 6

## CH_02
designator CH?, comment Connect Housing  (value not drawn)  (graphical)
Part No.: {Value}; Price: {Price}
pins: 1, 2

## CH_03
designator CH?, comment Connect Housing  (value not drawn)
Part No.: {Value}; Price: {Price}
pins: 1, 2, 3

## CH_04
designator CH?, comment Connect Housing  (value not drawn)
Part No.: {Value}; Price: {Price}
pins: 1, 2, 3, 4

## CH_05
designator CH?, comment Connect Housing  (value not drawn)
Part No.: {Value}; Price: {Price}
pins: 1, 2, 3, 4, 5

## CH_06
designator CH?, comment Connect Housing  (value not drawn)
{Price}: *; Price: *
pins: 1, 2, 3, 4, 5, 6

## CH_07
designator CH?, comment Connect Housing  (value not drawn)
Part No.: *; Price: {Price}
pins: 1, 2, 3, 4, 5, 6, 7

## CH_08
designator CH?, comment Connect Housing
Part No.: *; Price: {Price}
pins: 1, 2, 3, 4, 5, 6, 7, 8

## COIL
designator U?  Part No.: {Value}  (hidden comment: COIL)
Price: {Price}
pins: 1, 2

## COIL_D
designator L?  Part No.: {Value}  (hidden comment: COIL_D)
Price: {Price}
footprint COIL
pins: 1, 2

## COIL_H
designator L?  Part No.: {Value}  (hidden comment: COIL_H)
Price: {Price}
footprint COIL_H
pins: 1, 2

## COIL_IC
designator L?  Part No.: {Value}  (hidden comment: COIL_IC)
Price: {Price}
footprint COIL_V
pins: 1, 2

## COIL_V5
designator L?  Part No.: {Value}  (hidden comment: COIL_V5)
Price: {Price}
footprint COIL_V5
pins: 1, 2

## COIL_YW
designator L?  Part No.: {Value}  (hidden comment: COIL_YW)
Price: {Price}
footprint COIL_V
pins: 1, 2

## COIN_M
designator OFF?  Part No.: {Value}  (hidden comment: COIN_M)
Price: {Price}
pins: 1, 2, 3
text: C

## CP2_5x6_5
designator CP?, comment Part No.: {Part No}  규격: {Value}  (hidden comment: CP3_8)
Price: {Price}
footprint CP3_8
pins: 1, 2

## CP3_8
designator CP?  Part No.: {Part No}  규격: {Value}  (hidden comment: CP3_8)
Price: {Price}
footprint CP3_8
pins: 1, 2

## CP5_8
designator CP?  Part No.: {Part No}  규격: {Value}  (hidden comment: *)
Price: {Price}
footprint CP5_8
pins: 1 hidden, 1, 2 hidden, 2

## CP5_10
designator CP?  Part No.: {Part No}  규격: {Value}  (hidden comment: *)
Price: {Price}
footprint CP5_10
pins: 1, 2

## CP5_12
designator CP?  Part No.: {Part No}  규격: {Value}  (hidden comment: CP5_12)
Price: {Price}
footprint CP5_12
pins: 1, 2

## CP5_SMT
designator CP?  규격: 100uF/16V  Part No.: {Part No}  (hidden comment: CP5_SMT)
Price: 31
footprint CP5_SMT
pins: 1, 2

## CP6_SMT
designator CP?  규격: 220uF/16V  (hidden comment: CP6_SMT)
Part No.: RV16V220 6.3X7.7 (ELNA / 삼영); ComponentLink1Description: New link; ComponentLink1URL: *; Price: 40
footprint CP6_SMT
pins: 1, 2

## CP8_16
designator CP?  Part No.: {Value}  (hidden comment: CP8_16)
Price: {Price}; 규격: {Value}
footprint CP8_16
pins: 1, 2

## CP8_SMT
designator CP?  규격: 220uF/35V  (hidden comment: CP8_SMT)
Part No.: RV35V220 8*10.5 (ELNA /삼영); Price: 69
footprint CP8_SMT
pins: 1, 2

## CP10_SMT
designator CP?  Part No.: {Value}  규격: 470UF/25V(MVK)  (hidden comment: CP10_SMT)
Price: 130
footprint CP10_SMT
pins: 1, 2

## CP25_V
designator CP?  Part No.: {Part No}  규격: {Value}  (hidden comment: CP25_V)
Price: {Price}
footprint CP25_80V
pins: 1, 2

## CP_SMT
designator CP?, comment Part No.: {Value}  (hidden comment: CP8_16)
Price: {Price}; 규격: {Value}
footprint CP5_SMT
footprint CP6_SMT
footprint CP8_SMT
footprint CP10_SMT
pins: 1, 2

## CPF0402B110KE
designator X?
Res SMD 0402 110K 0.1% 0.063W T.C.25ppm TE Connectivity CPF Series Precision Thin Film Surface Mount Resistor 0402 Case 110k +/-0.1% 0.063W +/-25ppm/C; Geometry.Height: 0.35mm; Manufacturer_Name: TE Connectivity; Mouser Part Number: 279-CPF0402B110KE; Mouser Price/Stock: https://www.mouser.co.uk/ProductDetail/TE-Connectivity-Holsworthy/CPF0402B110KE?qs=bZxayH4A01YG8My0QrZGCg%3D%3D; Arrow Part Number: CPF0402B110KE; Arrow Price/Stock: https://www.arrow.com/en/products/cpf0402b110ke/te-connectivity?region=nac; Datasheet Link: http://www.farnell.com/datasheets/1786775.pdf; Part No.: CPF0402B110KE; Price: {Price}
footprint RESC1005X35N
pins: 1, 2

## CPF0805B100KE
designator X?
Res SMD 0805 100K 0.1% 0.10W T.C.25ppm TE Connectivity CPF Series Precision Thin Film Surface Mount Resistor 0805 Case 100k +/-0.1% 0.1W +/-25ppm/C; Geometry.Height: 0.65mm; Manufacturer_Name: TE Connectivity; Part No.: CPF0805B100KE; Mouser Part Number: 279-CPF0805B100KE; Mouser Price/Stock: https://www.mouser.co.uk/ProductDetail/TE-Connectivity-Holsworthy/CPF0805B100KE?qs=DfH2yQaBz6uJ4LCHLvfv4Q%3D%3D; Arrow Part Number: CPF0805B100KE; Arrow Price/Stock: https://www.arrow.com/en/products/cpf0805b100ke/te-connectivity?region=nac; Datasheet Link: http://docs-europe.electrocomponents.com/webdocs/13d1/0900766b813d116f.pdf; Price: {Price}
footprint RESC2012X65N
pins: 1, 2

## CPF0805B100RE1
designator R?
TE CONNECTIVITY / NEOHM - CPF0805B100RE1 - RES, THIN FILM, 100R, 0.1%, 0.1W, 0805; Geometry.Height: 0.65mm; Parameter 1: {Price}; Manufacturer_Name: TE Connectivity; Part No.: CPF0805B100RE1; Mouser Part Number: 279-CPF0805B100RE1; Mouser Price/Stock: https://www.mouser.co.uk/ProductDetail/TE-Connectivity-Holsworthy/CPF0805B100RE1?qs=9ylKvqdyudkCWLPT1QvLZQ%3D%3D; Arrow Part Number: CPF0805B100RE1; Arrow Price/Stock: https://www.arrow.com/en/products/cpf0805b100re1/te-connectivity?region=nac; Datasheet Link: http://docs-europe.electrocomponents.com/webdocs/13d1/0900766b813d116f.pdf
footprint RESC2012X65N
pins: 1, 2

## CS0805
designator C?  규격: {Value}  (hidden comment: CS0805)
Part No.: {Part No}; Price: {Price}
footprint CC0603
pins: 1, 2

## CS1608
designator C?  규격: {Value}  (hidden comment: CS1608)
Part No.: {Part No}; Price: 6
footprint CC1608
footprint CC1608N
pins: 1, 2

## CS2012
designator C?  규격: {Value}  (hidden comment: CS2012)
Part No.: C2012X7R1H104KT  (CC20X104K50W); Price: 6
footprint CC2012
footprint CC2012N
pins: 1, 2

## CS3216
designator C?  규격: {Value}  (hidden comment: CS3216)
Part No.: {Part No}; Price: {Price}
footprint CC3216
pins: 1, 2

## CS_SMT
designator C?, comment 규격: {Value}  (hidden comment: CS0805)
Part No.: {Part No}; Price: {Price}
footprint CC0603
footprint CC1206
footprint CC1608
footprint CC2012N
footprint CC3216
pins: 1, 2

## CT200
designator CT?  규격: {Value}  (hidden comment: CT200)
Part No.: {Part No}; Price: {Price}
footprint CT200
pins: 1, 2

## CT2012
designator CT?, comment 규격: {Value}  (hidden comment: CT3216)
Part No.: {Part No}; Price: {Price}
footprint CT2012
pins: 1, 2

## CT3216
designator CT?  규격: {Value}  (hidden comment: CT3216)
Part No.: {Part No}; Price: {Price}
footprint CT3216
pins: 1, 2

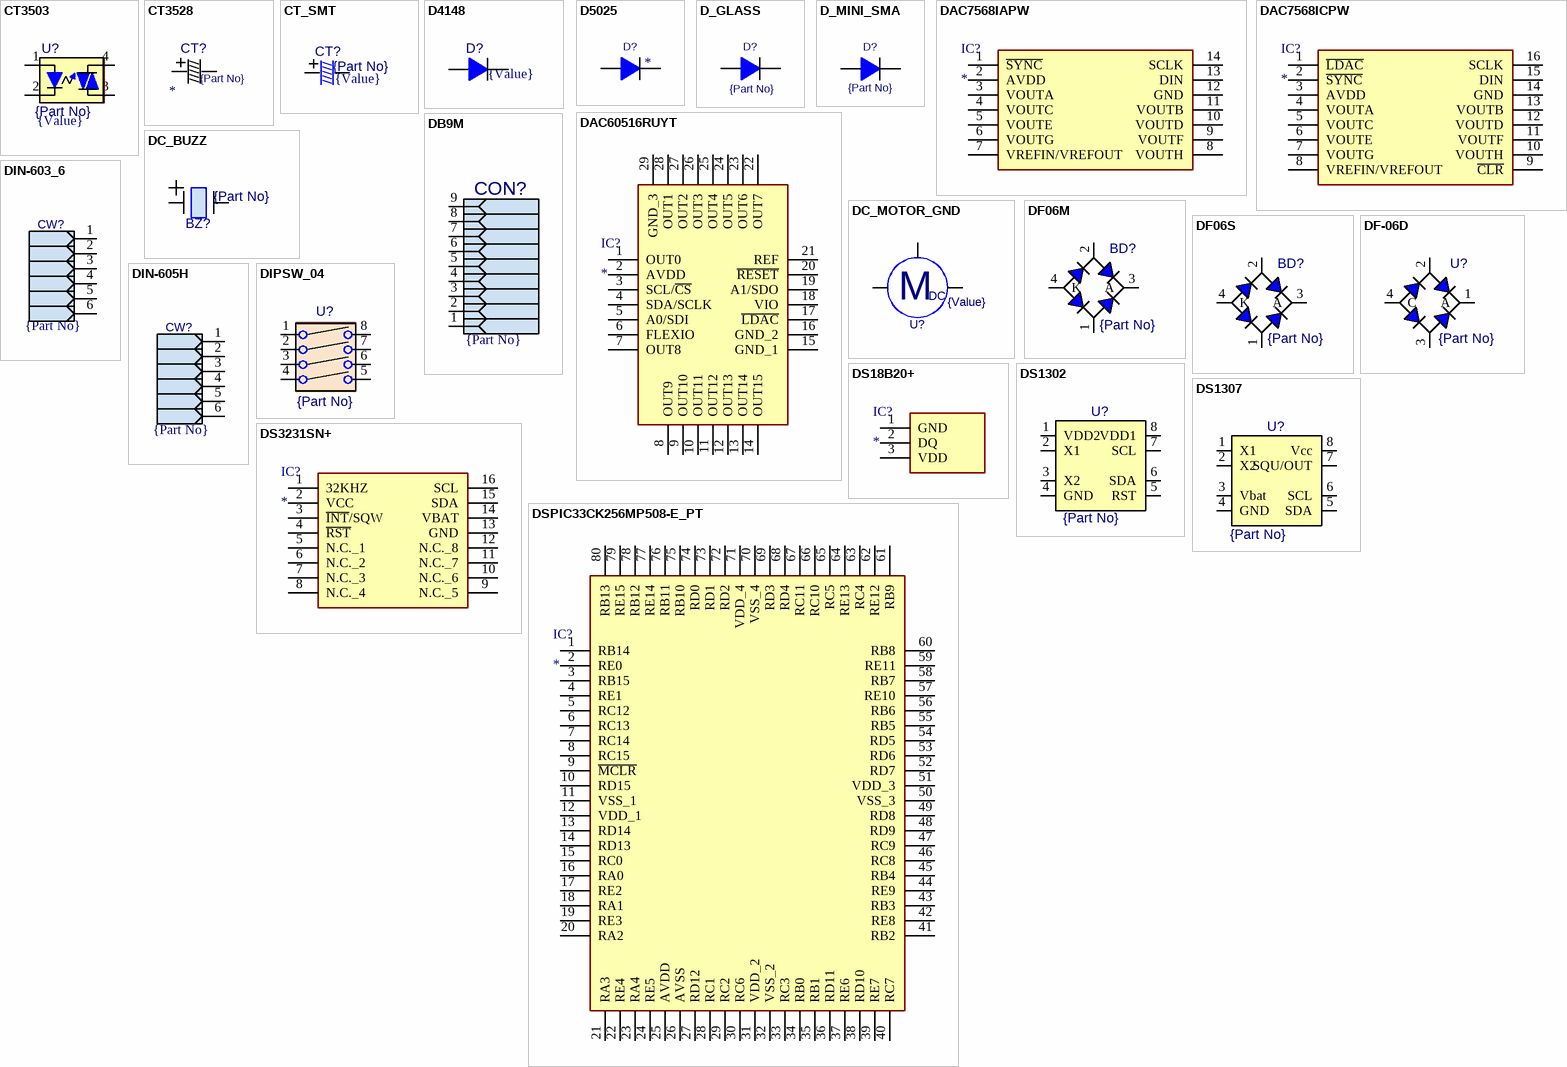
[diagram p4: symbols CT3503 to DSPIC33CK256MP508-E_PT]

## CT3503
designator U?  규격: {Value}  Part No.: {Part No}  (hidden comment: CT3503)
Price: {Price}
footprint SOP4
pins: 1 A, 2 K, 3 E, 4 C

## CT3528
designator CT?  Part No.: {Part No}  (hidden comment: CT3528)
Price: {Price}; 규격: *
footprint CT3528M
pins: 1, 2

## CT_SMT
designator CT?, comment 규격: {Value}  Part No.: {Part No}  (hidden comment: CT3216)
Price: {Price}
footprint CT2012
footprint CT3216
footprint CT3528M
pins: 1, 2

## D4148
designator D?  규격: {Value}  (hidden comment: D4148)
Part No.: {Part No}; Price: {Price}
footprint D4148
pins: 1 A, 2 K

## D5025
designator D?  (value not drawn)
Part No.: {Part No}; Price: {Price}; 규격: *
footprint D5025
pins: 1, 2

## D_GLASS
designator D?  Part No.: {Part No}  (hidden comment: D_GLASS)
Price: {Price}
footprint DGRASS
pins: 1, 2

## D_MINI_SMA
designator D?  Part No.: {Part No}  (hidden comment: D_MINI_SMA)
Price: 22
footprint MINI-SMA
pins: 1, 2

## DAC7568IAPW
designator IC?
Integrated Circuit; Manufacturer_Name: Texas Instruments; Manufacturer_Part_Number: DAC7568IAPW; Datasheet Link: http://www.ti.com/lit/ds/symlink/dac7568.pdf; Height: 1.2mm; Mouser Part Number: 595-DAC7568IAPW; Mouser Price/Stock: https://www.mouser.co.uk/ProductDetail/Texas-Instruments/DAC7568IAPW?qs=JxdSYA%2FPj%252BHk%252B9Bo5OGVmw%3D%3D; Arrow Part Number: DAC7568IAPW; Arrow Price/Stock: https://www.arrow.com/en/products/dac7568iapw/texas-instruments?region=europe
footprint SOP65P640X110-14N
pins: 1 ~{SYNC}, 2 AVDD, 3 VOUTA, 4 VOUTC, 5 VOUTE, 6 VOUTG, 7 VREFIN/VREFOUT, 8 VOUTH, 9 VOUTF, 10 VOUTD, 11 VOUTB, 12 GND, 13 DIN, 14 SCLK

## DAC7568ICPW
designator IC?
Integrated Circuit; Manufacturer_Name: Texas Instruments; Manufacturer_Part_Number: DAC7568ICPW; Datasheet Link: http://www.ti.com/lit/ds/symlink/dac7568.pdf; Height: 1.2mm; Mouser Part Number: 595-DAC7568ICPW; Mouser Price/Stock: https://www.mouser.co.uk/ProductDetail/Texas-Instruments/DAC7568ICPW?qs=JxdSYA%2FPj%252BFH3Dicz%2FPH6Q%3D%3D; Arrow Part Number: DAC7568ICPW; Arrow Price/Stock: https://www.arrow.com/en/products/dac7568icpw/texas-instruments?region=nac
footprint SOP65P640X120-16N
pins: 1 ~{LDAC}, 2 ~{SYNC}, 3 AVDD, 4 VOUTA, 5 VOUTC, 6 VOUTE, 7 VOUTG, 8 VREFIN/VREFOUT, 9 ~{CLR}, 10 VOUTH, 11 VOUTF, 12 VOUTD, 13 VOUTB, 14 GND, 15 DIN, 16 SCLK

## DAC60516RUYT
designator IC?
Integrated Circuit; Manufacturer_Name: Texas Instruments; Manufacturer_Part_Number: DAC60516RUYT; Datasheet Link: https://www.ti.com/lit/ds/symlink/dac60516.pdf?ts=1741697015374&ref_url=https%253A%252F%252Fwww.ti.com%252Fdata-converters%252Fdac-circuit%252Fproducts.html; Height: 0.8mm
footprint QFN40P400X400X80-29N-D
pins: 1 OUT0, 2 AVDD, 3 SCL/~{CS}, 4 SDA/SCLK, 5 A0/SDI, 6 FLEXIO, 7 OUT8, 8 OUT9, 9 OUT10, 10 OUT11, 11 OUT12, 12 OUT13, 13 OUT14, 14 OUT15, 15 GND_1, 16 GND_2, 17 ~{LDAC}, 18 VIO, 19 A1/SDO, 20 ~{RESET}, 21 REF, 22 OUT7, 23 OUT6, 24 OUT5, 25 OUT4, 26 OUT3, 27 OUT2, 28 OUT1, 29 GND_3

## DB9M
designator CON?  Part No.: {Part No}  (hidden comment: DB9M)
Price: {Price}
footprint DB9M
pins: 1, 2, 3, 4, 5, 6, 7, 8, 9

## DC_BUZZ
designator BZ?  Part No.: {Part No}  (hidden comment: DC_BUZZ)
Price: {Price}
footprint DC_BUZZ
pins: 1, 2

## DC_MOTOR_GND
designator U?  Part No.: {Value}  (hidden comment: DC_MOTOR_GND)
Price: {Price}
pins: 1 +, 2 -, 3 Earth
text: DC; M

## DF06M
designator BD?  Part No.: {Part No}  (hidden comment: DF06M)
Full Wave Diode Bridge; ComponentField6: Published 8-Jun-2000; OriginalName: BRIDGE; Price: {Price}
simulation model BRIDGE
footprint DF06M
pins: 1 C, 2 C, 3 A, 4 K

## DF06S
designator BD?  Part No.: {Part No}  (hidden comment: DF06S)
Full Wave Diode Bridge; ComponentField6: Published 8-Jun-2000; OriginalName: BRIDGE; Price: {Price}
simulation model BRIDGE
footprint DF-S
pins: 1 C, 2 C, 3 A, 4 K

## DF-06D
designator U?  Part No.: {Part No}  (hidden comment: DF-06D)
Full Wave Diode Bridge; ComponentField6: Published 8-Jun-2000; OriginalName: BRIDGE; Price: {Price}
simulation model BRIDGE
footprint BRIDGE_D
pins: 1 A, 2 C, 3 K, 4 C

## DIN-603_6
designator CW?  Part No.: {Part No}  (hidden comment: DIN-603_6)
Price: {Price}
footprint DIN-603_6
pins: 1, 2, 3, 4, 5, 6

## DIN-605H
designator CW?  Part No.: {Part No}  (hidden comment: DIN-605H)
Price: {Price}
footprint DIN-605H
pins: 1, 2, 3, 4, 5, 6

## DIPSW_04
designator U?  Part No.: {Part No}  (hidden comment: DIPSW_04)
Price: {Price}
footprint DIP8
pins: 1, 2, 3, 4, 5, 6, 7, 8

## DS18B20+
designator IC?
Integrated Circuit; Manufacturer_Name: Analog Devices; Manufacturer_Part_Number: DS18B20+; Datasheet Link: https://ms.componentsearchengine.com/Datasheets/2/DS18B20+.pdf; Height: 4.95mm; Mouser Part Number: 700-DS18B20+; Mouser Price/Stock: https://www.mouser.co.uk/ProductDetail/Analog-Devices-Maxim-Integrated/DS18B20%2b?qs=7H2Jq%252ByxpJKegCKabDbglA%3D%3D; Arrow Part Number: DS18B20+; Arrow Price/Stock: https://www.arrow.com/en/products/ds18b20/analog-devices.html?utm_currency=USD&region=nac
footprint DS18B20
pins: 1 GND, 2 DQ, 3 VDD

## DS1302
designator U?  Part No.: {Part No}  (hidden comment: DS1302)
Real Timer Clock; OriginalName: PIC16C54-10/SO; ComponentField6: T0CKI (pin 3) must be tied to VSS or VDD, if not in use, to reduce current consumption; ComponentField7: Published 8-Jun-2000.; Price: {Price}
footprint SO8
pins: 1 VDD2, 2 X1, 3 X2, 4 GND, 5 RST, 6 SDA, 7 SCL, 8 VDD1

## DS1307
designator U?  Part No.: {Part No}  (hidden comment: DS1307)
Real Timer Clock; OriginalName: PIC16C54-10/SO; ComponentField6: T0CKI (pin 3) must be tied to VSS or VDD, if not in use, to reduce current consumption; ComponentField7: Published 8-Jun-2000.; Price: {Price}
footprint SO8
pins: 1 X1, 2 X2, 3 Vbat, 4 GND, 5 SDA, 6 SCL, 7 SQU/OUT, 8 Vcc

## DS3231SN+
designator IC?
Integrated Circuit; Manufacturer_Name: Analog Devices; Manufacturer_Part_Number: DS3231SN+; Datasheet Link: https://datasheet.datasheetarchive.com/originals/distributors/Datasheets-8/DSA-148585.pdf; Height: 2.65mm; Mouser Part Number: N/A; Mouser Price/Stock: https://www.mouser.co.uk/ProductDetail/Maxim-Integrated/DS3231SN%2b?qs=PW0O0IDulYU4tnVphLZkCQ%3D%3D
footprint SOIC127P1032X265-16N
pins: 1 32KHZ, 2 VCC, 3 ~{INT}/SQW, 4 ~{RST}, 5 N.C._1, 6 N.C._2, 7 N.C._3, 8 N.C._4, 9 N.C._5, 10 N.C._6, 11 N.C._7, 12 N.C._8, 13 GND, 14 VBAT, 15 SDA, 16 SCL

## DSPIC33CK256MP508-E_PT
designator IC?
Integrated Circuit; Manufacturer_Name: Microchip; Manufacturer_Part_Number: DSPIC33CK256MP508-E/PT; Datasheet Link: https://componentsearchengine.com/Datasheets/1/dsPIC33CK256MP508-E_PT.pdf; Height: 1.2mm; Mouser Part Number: 579-PIC33CK256MP508E; Mouser Price/Stock: https://www.mouser.co.uk/ProductDetail/Microchip-Technology/dsPIC33CK256MP508-E-PT?qs=y6ZabgHbY%252By9SI5TpS8Uaw%3D%3D; Arrow Part Number: DSPIC33CK256MP508-E/PT; Arrow Price/Stock: https://www.arrow.com/en/products/dspic33ck256mp508-ept/microchip-technology?utm_currency=USD&region=nac
footprint QFP50P1400X1400X120-80N
pins: 1 RB14, 2 RE0, 3 RB15, 4 RE1, 5 RC12, 6 RC13, 7 RC14, 8 RC15, 9 ~{MCLR}, 10 RD15, 11 VSS_1, 12 VDD_1, 13 RD14, 14 RD13, 15 RC0, 16 RA0, 17 RE2, 18 RA1, 19 RE3, 20 RA2, 21 RA3, 22 RE4, 23 RA4, 24 RE5, 25 AVDD, 26 AVSS, 27 RD12, 28 RC1, 29 RC2, 30 RC6, 31 VDD_2, 32 VSS_2, 33 RC3, 34 RB0, 35 RB1, 36 RD11, 37 RE6, 38 RD10, 39 RE7, 40 RC7, 41 RB2, 42 RE8, 43 RB3, 44 RE9, 45 RB4, 46 RC8, 47 RC9, 48 RD9, 49 RD8, 50 VSS_3, 51 VDD_3, 52 RD7, 53 RD6, 54 RD5, 55 RB5, 56 RB6, 57 RE10, 58 RB7, 59 RE11, 60 RB8, 61 RB9, 62 RE12, 63 RC4, 64 RE13, 65 RC5, 66 RC10, 67 RC11, 68 RD4, 69 RD3, 70 VSS_4, 71 VDD_4, 72 RD2, 73 RD1, 74 RD0, 75 RB10, 76 RB11, 77 RE14, 78 RB12, 79 RE15, 80 RB13

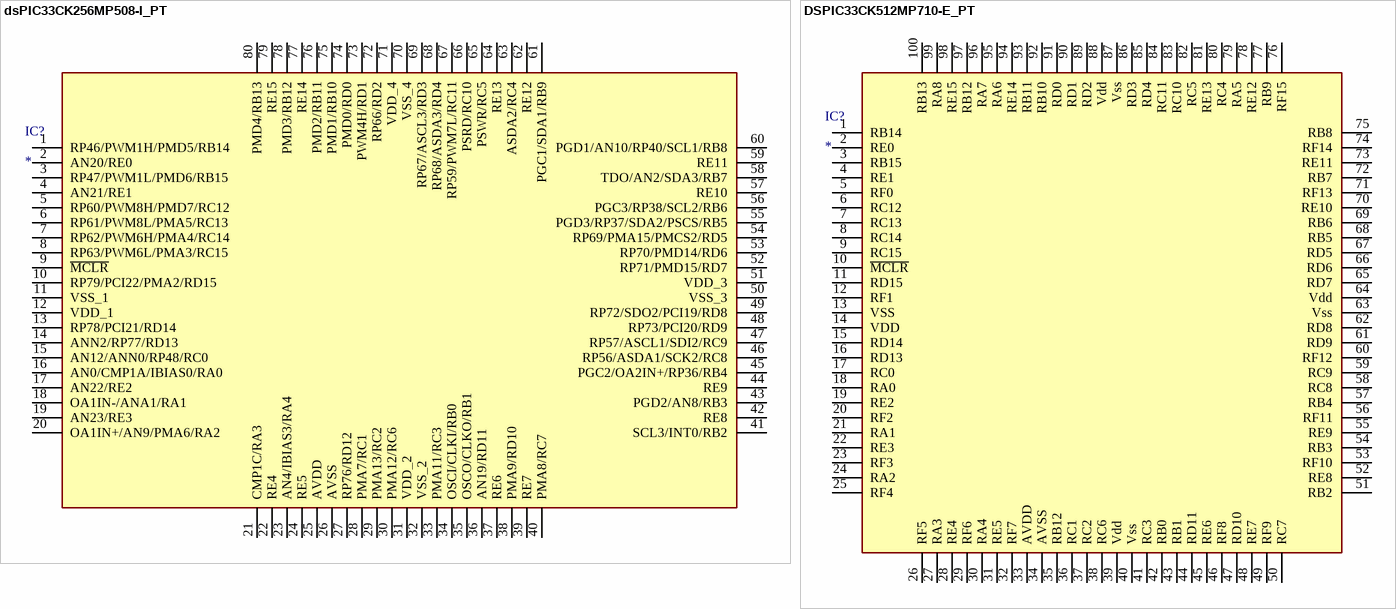
[diagram p5: symbols dsPIC33CK256MP508-I_PT to DSPIC33CK512MP710-E_PT]

## dsPIC33CK256MP508-I_PT
designator IC?
Integrated Circuit; Manufacturer_Name: Microchip; Manufacturer_Part_Number: dsPIC33CK256MP508-I/PT; Datasheet Link: https://componentsearchengine.com/Datasheets/1/dsPIC33CK256MP508-I_PT.pdf; Height: 1.2mm; Mouser Part Number: 579-PIC33CK256MP508I; Mouser Price/Stock: https://www.mouser.co.uk/ProductDetail/Microchip-Technology/dsPIC33CK256MP508-I-PT?qs=y6ZabgHbY%252BxrpvpLxmf6Lw%3D%3D; Arrow Part Number: DSPIC33CK256MP508-I/PT; Arrow Price/Stock: https://www.arrow.com/en/products/dspic33ck256mp508-ipt/microchip-technology?utm_currency=USD&region=nac
footprint QFP50P1400X1400X120-80N
pins: 1 RP46/PWM1H/PMD5/RB14, 2 AN20/RE0, 3 RP47/PWM1L/PMD6/RB15, 4 AN21/RE1, 5 RP60/PWM8H/PMD7/RC12, 6 RP61/PWM8L/PMA5/RC13, 7 RP62/PWM6H/PMA4/RC14, 8 RP63/PWM6L/PMA3/RC15, 9 ~{MCLR}, 10 RP79/PCI22/PMA2/RD15, 11 VSS_1, 12 VDD_1, 13 RP78/PCI21/RD14, 14 ANN2/RP77/RD13, 15 AN12/ANN0/RP48/RC0, 16 AN0/CMP1A/IBIAS0/RA0, 17 AN22/RE2, 18 OA1IN-/ANA1/RA1, 19 AN23/RE3, 20 OA1IN+/AN9/PMA6/RA2, 21 CMP1C/RA3, 22 RE4, 23 AN4/IBIAS3/RA4, 24 RE5, 25 AVDD, 26 AVSS, 27 RP76/RD12, 28 PMA7/RC1, 29 PMA13/RC2, 30 PMA12/RC6, 31 VDD_2, 32 VSS_2, 33 PMA11/RC3, 34 OSCI/CLKI/RB0, 35 OSCO/CLKO/RB1, 36 AN19/RD11, 37 RE6, 38 PMA9/RD10, 39 RE7, 40 PMA8/RC7, 41 SCL3/INT0/RB2, 42 RE8, 43 PGD2/AN8/RB3, 44 RE9, 45 PGC2/OA2IN+/RP36/RB4, 46 RP56/ASDA1/SCK2/RC8, 47 RP57/ASCL1/SDI2/RC9, 48 RP73/PCI20/RD9, 49 RP72/SDO2/PCI19/RD8, 50 VSS_3, 51 VDD_3, 52 RP71/PMD15/RD7, 53 RP70/PMD14/RD6, 54 RP69/PMA15/PMCS2/RD5, 55 PGD3/RP37/SDA2/PSCS/RB5, 56 PGC3/RP38/SCL2/RB6, 57 RE10, 58 TDO/AN2/SDA3/RB7, 59 RE11, 60 PGD1/AN10/RP40/SCL1/RB8, 61 PGC1/SDA1/RB9, 62 RE12, 63 ASDA2/RC4, 64 RE13, 65 PSWR/RC5, 66 PSRD/RC10, 67 RP59/PWM7L/RC11, 68 RP68/ASDA3/RD4, 69 RP67/ASCL3/RD3, 70 VSS_4, 71 VDD_4, 72 RP66/RD2, 73 PWM4H/RD1, 74 PMD0/RD0, 75 PMD1/RB10, 76 PMD2/RB11, 77 RE14, 78 PMD3/RB12, 79 RE15, 80 PMD4/RB13

## DSPIC33CK512MP710-E_PT
designator IC?  Mouser Part Number: dsPIC33CK512MP710  Manufacturer_Part_Number: DSPIC33CK256MP508-E/PT
Integrated Circuit; Manufacturer_Name: Microchip; Datasheet Link: https://componentsearchengine.com/Datasheets/1/dsPIC33CK256MP508-E_PT.pdf; Height: 1.2mm; Mouser Price/Stock: https://www.mouser.co.uk/ProductDetail/Microchip-Technology/dsPIC33CK256MP508-E-PT?qs=y6ZabgHbY%252By9SI5TpS8Uaw%3D%3D; Arrow Part Number: DSPIC33CK256MP508-E/PT; Arrow Price/Stock: https://www.arrow.com/en/products/dspic33ck256mp508-ept/microchip-technology?utm_currency=USD&region=nac
footprint QFP40P1400X1400X120-100N
pins: 1 RB14, 2 RE0, 3 RB15, 4 RE1, 5 RF0, 6 RC12, 7 RC13, 8 RC14, 9 RC15, 10 ~{MCLR}, 11 RD15, 12 RF1, 13 VSS (power), 14 VDD, 15 RD14, 16 RD13, 17 RC0, 18 RA0, 19 RE2, 20 RF2, 21 RA1, 22 RE3, 23 RF3, 24 RA2, 25 RF4, 26 RF5, 27 RA3, 28 RE4, 29 RF6, 30 RA4, 31 RE5, 32 RF7, 33 AVDD, 34 AVSS, 35 RB12, 36 RC1, 37 RC2, 38 RC6, 39 Vdd, 40 Vss, 41 RC3, 42 RB0, 43 RB1, 44 RD11, 45 RE6, 46 RF8, 47 RD10, 48 RE7, 49 RF9, 50 RC7, 51 RB2, 52 RE8, 53 RF10, 54 RB3, 55 RE9, 56 RF11, 57 RB4, 58 RC8, 59 RC9, 60 RF12, 61 RD9, 62 RD8, 63 Vss, 64 Vdd, 65 RD7, 66 RD6, 67 RD5, 68 RB5, 69 RB6, 70 RE10, 71 RF13, 72 RB7, 73 RE11, 74 RF14, 75 RB8, 76 RF15, 77 RB9, 78 RE12, 79 RA5, 80 RC4, 81 RE13, 82 RC5, 83 RC10, 84 RC11, 85 RD4, 86 RD3, 87 Vss, 88 Vdd, 89 RD2, 90 RD1, 91 RD0, 92 RB10, 93 RB11, 94 RE14, 95 RA6, 96 RA7, 97 RB12, 98 RE15, 99 RA8, 100 RB13

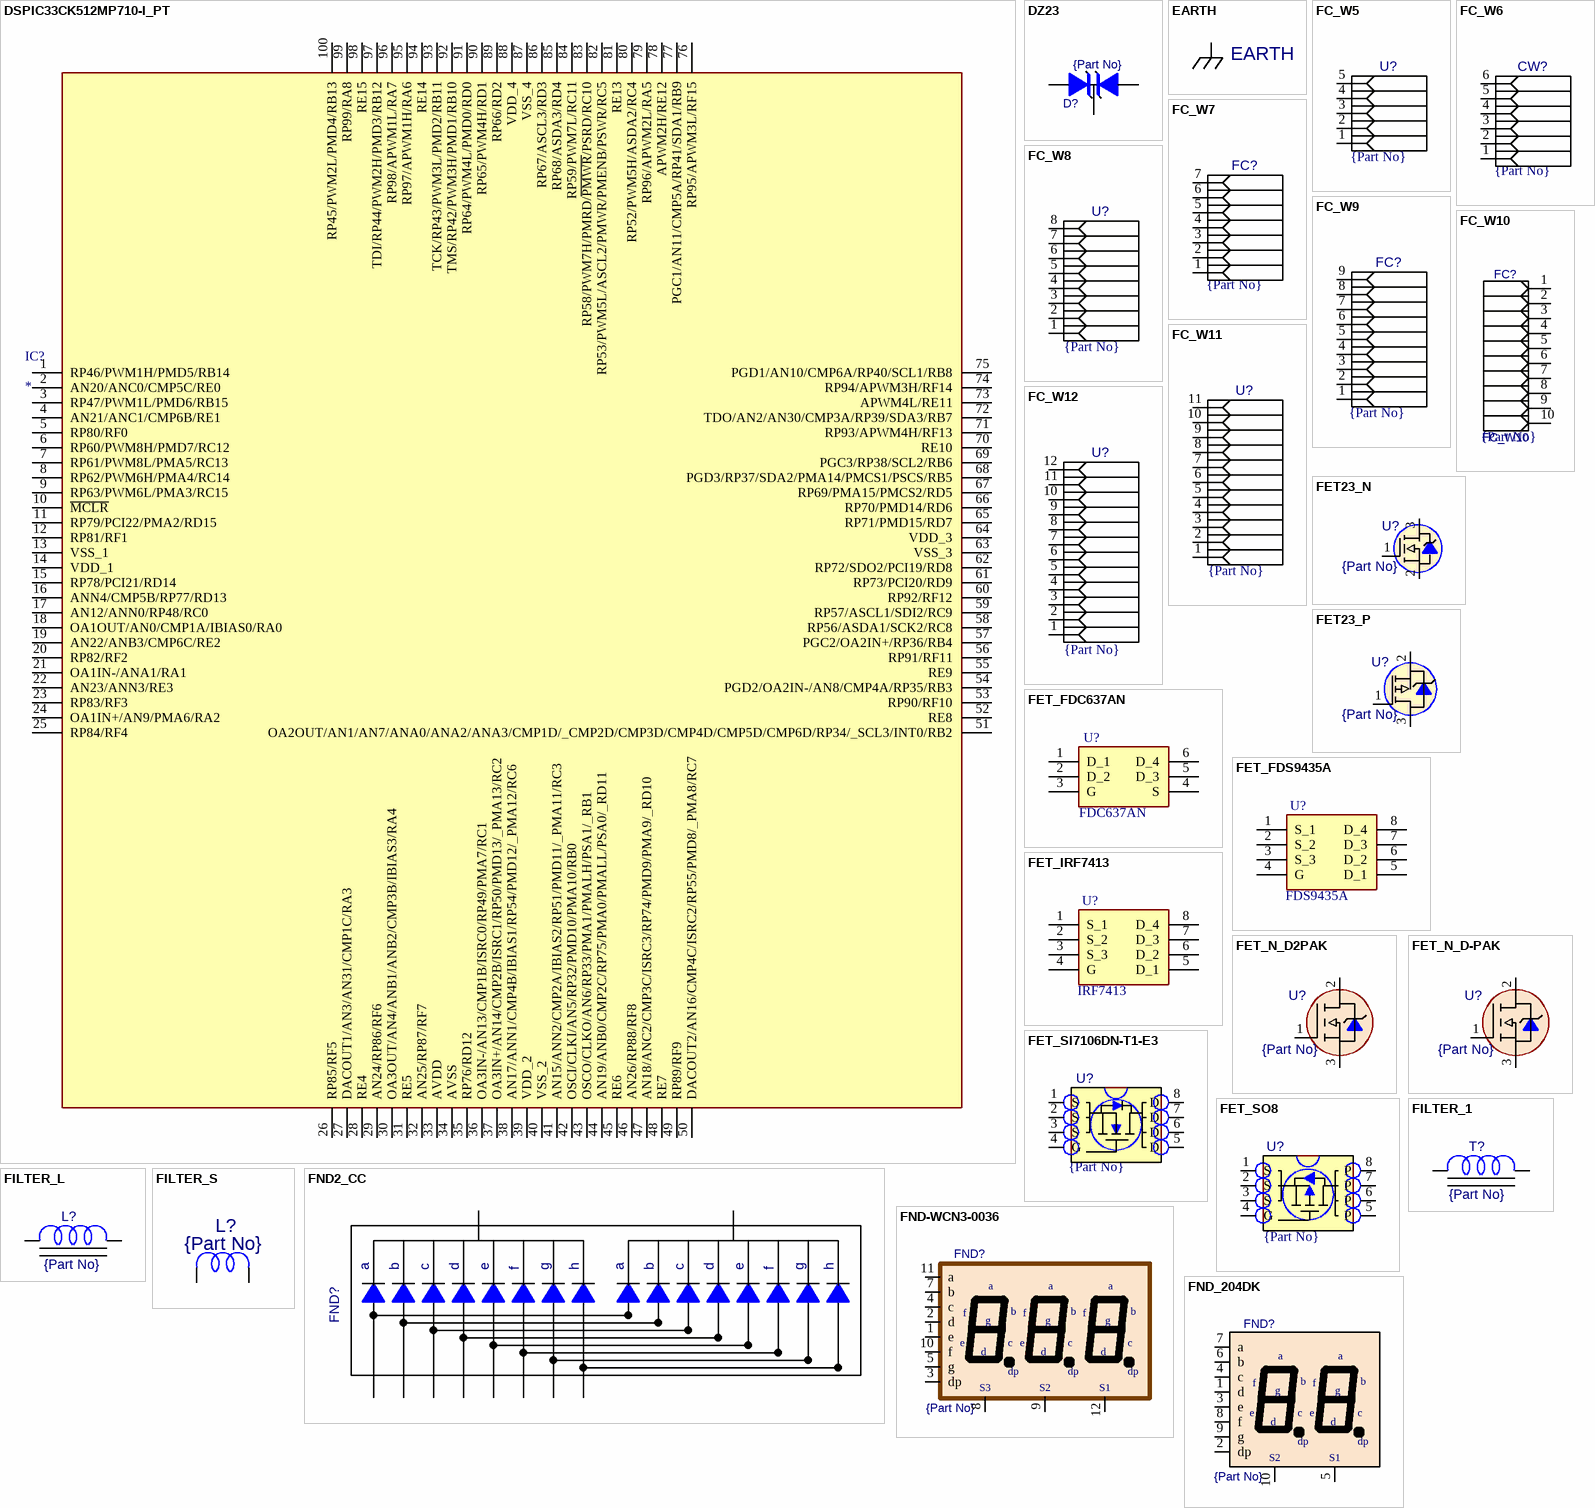
[diagram p6: symbols DSPIC33CK512MP710-I_PT to FND_204DK]